# Altium schematic symbol library QUAN.SchLib: 229 symbols (part 1 of 2)
Pins are listed as number, name and electrical type; pins without a type are passive.

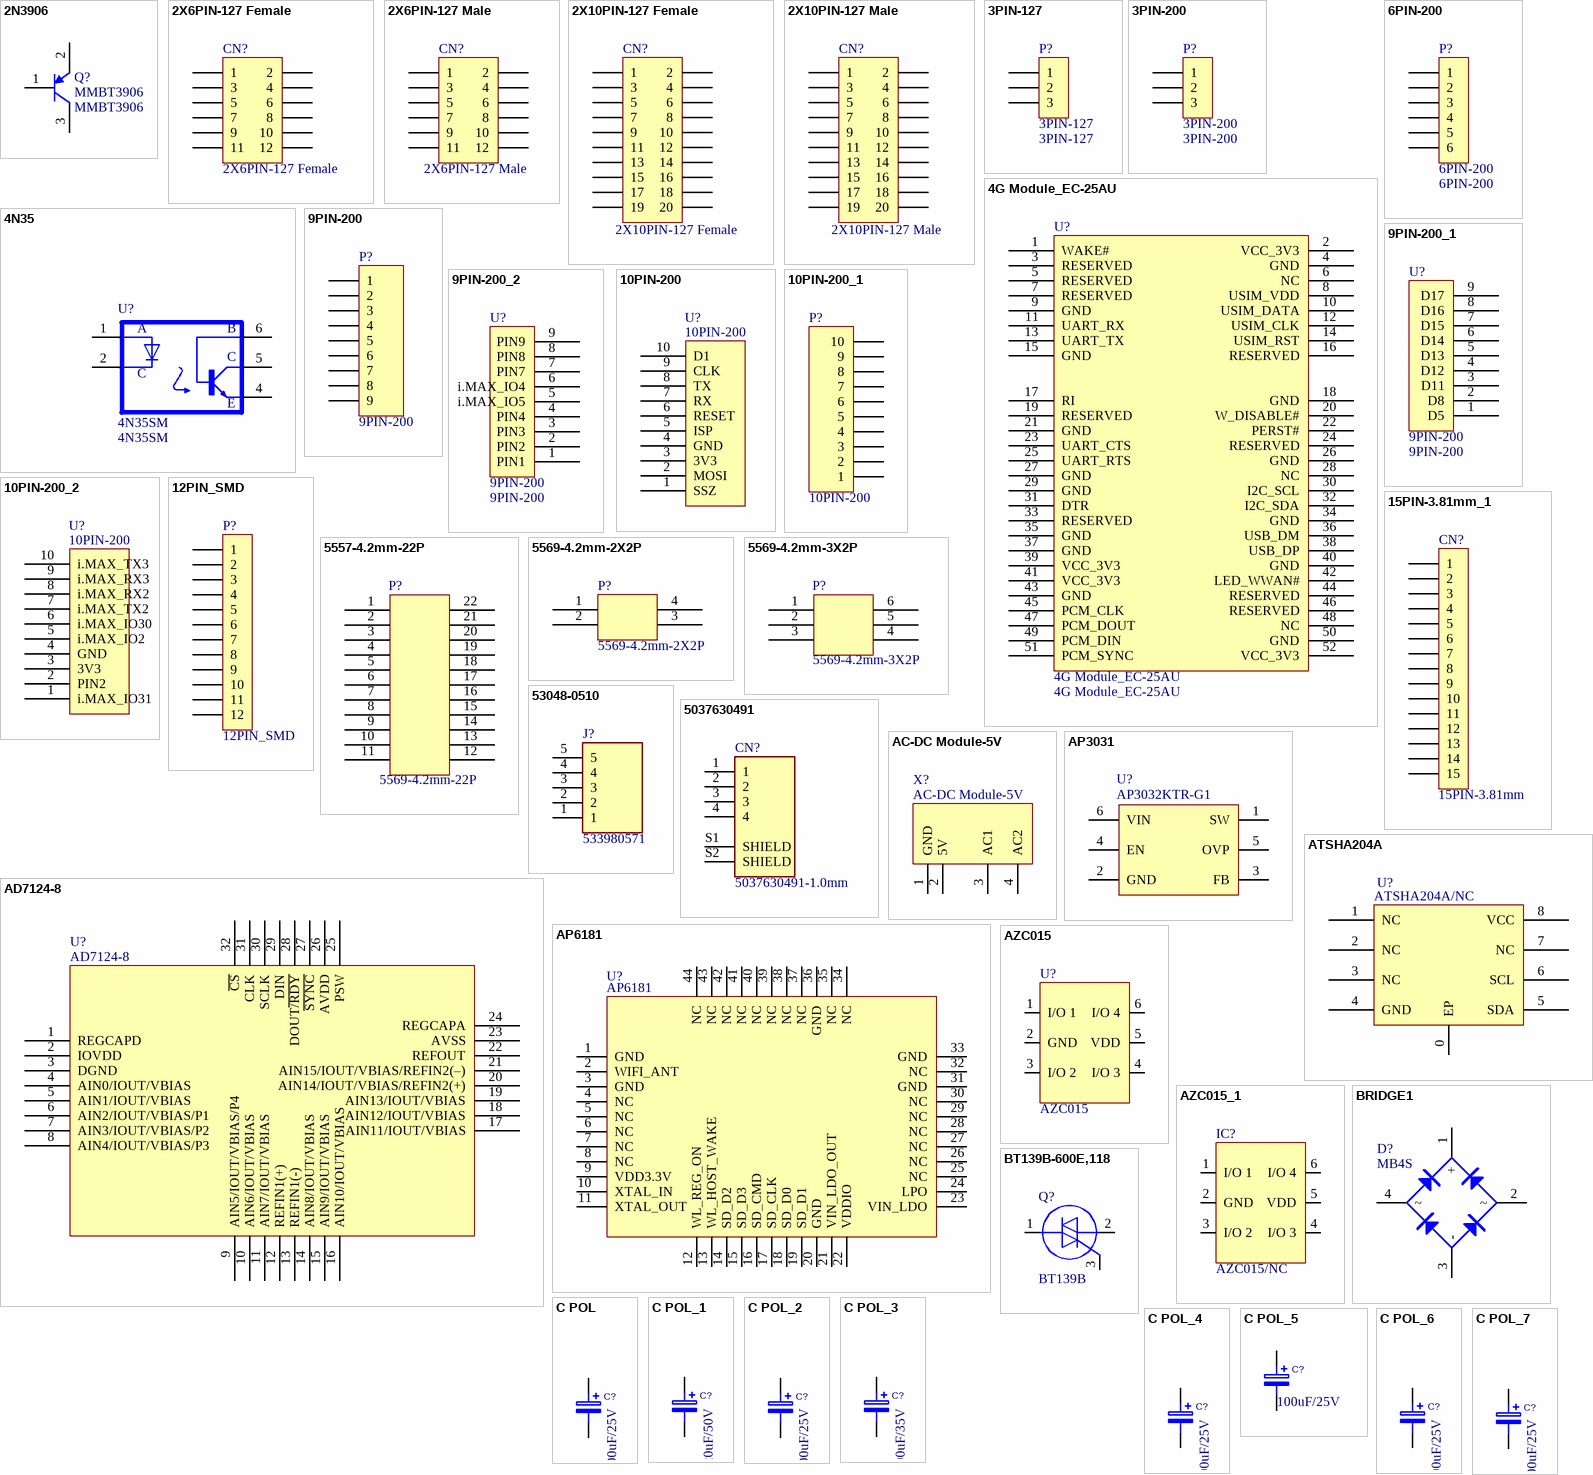
[diagram p0: symbols 2N3906 to C POL_7]

## 2N3906
designator Q?, comment MMBT3906
PNP General Purpose Amplifier; Published: 8-Jun-2000; LatestRevisionDate: 15-Jan-2003; LatestRevisionNote: PCB Footprint 'BCY-W3/D4.7' replaced; DatasheetDocument: 1997; PackageDocument: Sep-1998; PackageReference: TO-92A; Publisher: Altium Limited; Code_JEDEC: TO-92A; ComponentLink1Description: Manufacturer Link; ComponentLink1URL: http://www.fairchildsemi.com/; ComponentLink2Description: Datasheet; ComponentLink2URL: http://www.fairchildsemi.com/ds/2N%2F2N3906.pdf; Value: MMBT3906
footprint TO-92A
footprint SOT-23 -2N3906
pins: 1 B, 2 E, 3 C
2 alternate drawings of the same symbol

## 2X6PIN-127 Female
designator CN?
Value: 2X6PIN-127 Female
footprint 2X6PIN-127 -SMT Female
pins: 1, 2, 3, 4, 5, 6, 7, 8, 9, 10, 11, 12
2 alternate drawings of the same symbol

## 2X6PIN-127 Male
designator CN?
2X10PIN-127 Male; Value: 2X6PIN-127 Male
footprint 2X6PIN-127 -SMT male
pins: 1, 2, 3, 4, 5, 6, 7, 8, 9, 10, 11, 12
2 alternate drawings of the same symbol

## 2X10PIN-127 Female
designator CN?
Value: 2X10PIN-127 Female
footprint 2X10PIN-127 -SMT Female
pins: 1, 2, 3, 4, 5, 6, 7, 8, 9, 10, 11, 12, 13, 14, 15, 16, 17, 18, 19, 20
2 alternate drawings of the same symbol

## 2X10PIN-127 Male
designator CN?
Value: 2X10PIN-127 Male
footprint 2X10PIN-127 -SMT male
pins: 1, 2, 3, 4, 5, 6, 7, 8, 9, 10, 11, 12, 13, 14, 15, 16, 17, 18, 19, 20
2 alternate drawings of the same symbol

## 3PIN-127
designator P?
1.27mm Header; Value: 3PIN-127
footprint 3PIN-127
pins: 1, 2, 3

## 3PIN-200
designator P?
Pin Header; LatestRevisionDate: 17-Jul-2002; LatestRevisionNote: Re-released for DXP Platform.; Publisher: Altium Limited; Value: 3PIN-200
footprint 3PIN-200
pins: 1, 2, 3

## 4G Module_EC-25AU
designator U?
4G Module; Value: 4G Module_EC-25AU
footprint IC128
footprint QFP100
footprint pcie (PCIE)
pins: 1 WAKE#, 2 VCC_3V3, 3 RESERVED, 4 GND, 5 RESERVED, 6 NC, 7 RESERVED, 8 USIM_VDD, 9 GND, 10 USIM_DATA, 11 UART_RX, 12 USIM_CLK, 13 UART_TX, 14 USIM_RST, 15 GND, 16 RESERVED, 17 RI, 18 GND, 19 RESERVED, 20 W_DISABLE#, 21 GND, 22 PERST#, 23 UART_CTS, 24 RESERVED, 25 UART_RTS, 26 GND, 27 GND, 28 NC, 29 GND, 30 I2C_SCL, 31 DTR, 32 I2C_SDA, 33 RESERVED, 34 GND, 35 GND, 36 USB_DM, 37 GND, 38 USB_DP, 39 VCC_3V3, 40 GND, 41 VCC_3V3, 42 LED_WWAN#, 43 GND, 44 RESERVED, 45 PCM_CLK, 46 RESERVED, 47 PCM_DOUT, 48 NC, 49 PCM_DIN, 50 GND, 51 PCM_SYNC, 52 VCC_3V3
2 alternate drawings of the same symbol

## 4N35
designator U?, comment 4N35SM
Transistor Output Optocouplers PHOTO TRANS; MF: ON Semiconductor / Fairchild; SnapEDA_Link: https://www.snapeda.com/parts/4N35SM/Fairchild%20Semiconductor/view-part/4834122/?ref=snap; Mouser-Purchase-URL: https://snapeda.com/shop?store=Mouser&id=4834122; Availability: Good; DigiKey-Purchase-URL: https://snapeda.com/shop?store=DigiKey&id=4834122; MP: 4N35SM; Package: None; Price: None; Arrow_Electronics-Purchase-URL: https://snapeda.com/shop?store=Arrow+Electronics&id=4834122; Value: 4N35SM
footprint OPTO_4N35
pins: 1 A, 2 C, 4 E, 5 CO, 6 B

## 6PIN-200
designator P?
Pin Header; LatestRevisionDate: 17-Jul-2002; LatestRevisionNote: Re-released for DXP Platform.; Publisher: Altium Limited; Value: 6PIN-200
footprint 6PIN-200
pins: 1, 2, 3, 4, 5, 6

## 9PIN-200
designator P?
Pin Header; LatestRevisionDate: 17-Jul-2002; LatestRevisionNote: Re-released for DXP Platform.; Publisher: Altium Limited; Value: 9PIN-200
footprint 9PIN-200-PAD,1-Down
pins: 1, 2, 3, 4, 5, 6, 7, 8, 9

## 9PIN-200_1
designator U?, comment 9PIN-200
Pin Header; Value: 9PIN-200
footprint 9PIN-200
pins: 1 D5, 2 D8, 3 D11, 4 D12, 5 D13, 6 D14, 7 D15, 8 D16, 9 D17
2 alternate drawings of the same symbol

## 9PIN-200_2
designator U?, comment 9PIN-200
Pin Header; Value: 9PIN-200
footprint 9PIN-200
pins: 1 PIN1, 2 PIN2, 3 PIN3, 4 PIN4, 5 i.MAX_IO5, 6 i.MAX_IO4, 7 PIN7, 8 PIN8, 9 PIN9
2 alternate drawings of the same symbol

## 10PIN-200
designator U?
Pin Header; Value: 10PIN-200
footprint 10PIN-200
pins: 1 SSZ, 2 MOSI, 3 3V3, 4 GND, 5 ISP, 6 RESET, 7 RX, 8 TX, 9 CLK, 10 D1
2 alternate drawings of the same symbol

## 10PIN-200_1
designator P?, comment 10PIN-200
Pin Header; LatestRevisionDate: 17-Jul-2002; LatestRevisionNote: Re-released for DXP Platform.; Publisher: Altium Limited; Value: 10PIN-200
footprint 10PIN-200-PAD,1-Down
pins: 1, 2, 3, 4, 5, 6, 7, 8, 9, 10

## 10PIN-200_2
designator U?, comment 10PIN-200
Pin Header; Value: 10PIN-200
footprint 10PIN-200
pins: 1 i.MAX_IO31, 2 PIN2, 3 3V3, 4 GND, 5 i.MAX_IO2, 6 i.MAX_IO30, 7 i.MAX_TX2, 8 i.MAX_RX2, 9 i.MAX_RX3, 10 i.MAX_TX3
2 alternate drawings of the same symbol

## 12PIN_SMD
designator P?
Value: 12PIN_SMD
footprint 12PIN_SAMTEC-MMT-136-02-X-SH
pins: 1, 2, 3, 4, 5, 6, 7, 8, 9, 10, 11, 12

## 15PIN-3.81mm_1
designator CN?, comment 15PIN-3.81mm
Connector; Value: 15PIN-3.81mm
footprint CON15-3.81mm
pins: 1, 2, 3, 4, 5, 6, 7, 8, 9, 10, 11, 12, 13, 14, 15
2 alternate drawings of the same symbol

## 5557-4.2mm-22P
designator P?, comment 5569-4.2mm-22P
Connector; Value: 5569-4.2mm-22P
footprint WHITEWAFER2-4.2mm_5557-22P
pins: 1, 2, 3, 4, 5, 6, 7, 8, 9, 10, 11, 12, 13, 14, 15, 16, 17, 18, 19, 20, 21, 22

## 5569-4.2mm-2X2P
designator P?
Connecter; Value: 5569-4.2mm-2X2P
footprint 5569-4.2mm-2X2P
footprint 5569-4.2mm-2X2P-Side
pins: 1, 2, 3, 4

## 5569-4.2mm-3X2P
designator P?
Connecter; Value: 5569-4.2mm-3X2P
footprint 5569-4.2mm-3X2P-Side
pins: 1, 2, 3, 4, 5, 6

## 53048-0510
designator J?, comment 533980571
Connector; Manufacturer_Name: Molex; Manufacturer_Part_Number: 53048-0510; Datasheet Link: https://componentsearchengine.com/Datasheets/2/53048-0510.pdf; Height: 3.7mm; Value: 533980571
footprint 53398-0571
pins: 1, 2, 3, 4, 5

## 5037630491
designator CN?, comment 5037630491-1.0mm
Connector Header Surface Mount, Right Angle 4 position 0.039 _1.00mm_; MF: Molex; Price: None; Availability: Unavailable; MP: 5037630491; Package: None; SnapEDA_Link: https://www.snapeda.com/parts/5037630491/Molex/view-part/3215405/?ref=snap; Value: 5037630491-1.0mm
footprint MOLEX_5037630491
pins: 1, 2, 3, 4, S1 SHIELD, S2 SHIELD

## AC-DC Module-5V
designator X?
AC-DC Module; Value: AC-DC Module-5V
footprint AC-DC Module
pins: 1 GND, 2 5V, 3 AC1, 4 AC2
2 alternate drawings of the same symbol

## AD7124-8
designator U?
footprint IC128
footprint QFP100
footprint QFN-32-0.5MM-5X5_AD7124-8 (FN-32-0.5MM-5X5_AD7124-8)
pins: 1 REGCAPD, 2 IOVDD, 3 DGND, 4 AIN0/IOUT/VBIAS, 5 AIN1/IOUT/VBIAS, 6 AIN2/IOUT/VBIAS/P1, 7 AIN3/IOUT/VBIAS/P2, 8 AIN4/IOUT/VBIAS/P3, 9 AIN5/IOUT/VBIAS/P4, 10 AIN6/IOUT/VBIAS, 11 AIN7/IOUT/VBIAS, 12 REFIN1(+), 13 REFIN1(-), 14 AIN8/IOUT/VBIAS, 15 AIN9/IOUT/VBIAS, 16 AIN10/IOUT/VBIAS, 17 AIN11/IOUT/VBIAS, 18 AIN12/IOUT/VBIAS, 19 AIN13/IOUT/VBIAS, 20 AIN14/IOUT/VBIAS/REFIN2(+), 21 AIN15/IOUT/VBIAS/REFIN2(–), 22 REFOUT, 23 AVSS, 24 REGCAPA, 25 PSW, 26 AVDD, 27 ~{SYNC}, 28 DOUT~{/RDY}, 29 DIN, 30 SCLK, 31 CLK, 32 ~{CS}
2 alternate drawings of the same symbol

## AP3031
designator U?, comment AP3032KTR-G1
Value: AP3032KTR-G1
footprint SOT-23-6-0.95MM-1
pins: 1 SW, 2 GND, 3 FB, 4 EN, 5 OVP, 6 VIN

## AP6181
designator U?
footprint WIFI-AP6181
pins: 1 GND, 2 WIFI_ANT, 3 GND, 4 NC, 5 NC, 6 NC, 7 NC, 8 NC, 9 VDD3.3V, 10 XTAL_IN, 11 XTAL_OUT, 12 WL_REG_ON, 13 WL_HOST_WAKE, 14 SD_D2, 15 SD_D3, 16 SD_CMD, 17 SD_CLK, 18 SD_D0, 19 SD_D1, 20 GND, 21 VIN_LDO_OUT, 22 VDDIO, 23 VIN_LDO, 24 LPO, 25 NC, 26 NC, 27 NC, 28 NC, 29 NC, 30 NC, 31 GND, 32 NC, 33 GND, 34 NC, 35 NC, 36 GND, 37 NC, 38 NC, 39 NC, 40 NC, 41 NC, 42 NC, 43 NC, 44 NC

## ATSHA204A
designator U?, comment ATSHA204A/NC
footprint UDFN8
pins: 0 EP, 1 NC, 2 NC, 3 NC, 4 GND, 5 SDA, 6 SCL, 7 NC, 8 VCC
2 alternate drawings of the same symbol

## AZC015
designator U?
footprint SOT 363
footprint SOT-363
pins: 1 I/O 1, 2 GND, 3 I/O 2, 4 I/O 3, 5 VDD, 6 I/O 4

## AZC015_1
designator IC?, comment AZC015/NC
footprint SOT 363
footprint SOT-363
pins: 1 I/O 1, 2 GND, 3 I/O 2, 4 I/O 3, 5 VDD, 6 I/O 4

## BRIDGE1
designator D?, comment MB4S
Diode Bridge
footprint BRIDGE
footprint HD01-T
pins: 1 +, 2 ~, 3 -, 4 ~
2 alternate drawings of the same symbol

## BT139B-600E,118
designator Q?, comment BT139B
Triac; Manufacturer_Name: WeEn Semiconductors; Manufacturer_Part_Number: BT139B-600E,118; Datasheet Link: http://www.ween-semi.com/sites/default/files/2018-10/bt139b-600e.pdf; Arrow Part Number: BT139B-600E,118; Arrow Price/Stock: https://www.arrow.com/en/products/bt139b-600e118/ween-semiconductors; Mouser Part Number: 771-BT139B-600E118; Mouser Price/Stock: https://www.mouser.co.uk/ProductDetail/WeEn-Semiconductors/BT139B-600E118?qs=me8TqzrmIYUBrurgBMAh0Q%3D%3D
footprint BTA225B800B118
pins: 1 MT1, 2 MT2, 3 G

## C POL
designator C?, comment 100uF/25V
Part Number: 53300833000; Right: 20; Tolerance: 20%; Rating: 10V; Package Height: 1.8mm; PCB_x: 19.129500; PCB_y: 12.184000; PCB_dir: 0.000000; PCB_loc: Top; Bottom: 20; Value: 100uF/25V
footprint 0603
footprint 0805
footprint 3258
footprint TANCAP-B-TYPE
footprint DIP CAP-8*3.5
pins: 1, 2
2 alternate drawings of the same symbol

## C POL_1
designator C?, comment 220uF/50V
Part Number: 53300833000; Right: 20; Tolerance: 20%; Rating: 10V; Package Height: 1.8mm; PCB_x: 19.129500; PCB_y: 12.184000; PCB_dir: 0.000000; PCB_loc: Top; Bottom: 20; VALUE_ALLEGRO: 220uF/50V
footprint 0603
footprint 0805
footprint 3258
footprint TANCAP-B-TYPE
footprint DIP CAP-12.5*5
pins: 1, 2
2 alternate drawings of the same symbol

## C POL_2
designator C?, comment 100uF/25V
Part Number: 53300833000; Right: 20; Tolerance: 20%; Rating: 10V; Package Height: 1.8mm; PCB_x: 19.129500; PCB_y: 12.184000; PCB_dir: 0.000000; PCB_loc: Top; Bottom: 20; Value: 100uF/25V
footprint 0603
footprint 0805
footprint 3258
footprint TANCAP-B-TYPE
footprint DIP CAP-8*3.5
pins: 1, 2
2 alternate drawings of the same symbol

## C POL_3
designator C?, comment 100uF/35V
Part Number: 53300833000; Right: 20; Tolerance: 20%; Rating: 10V; Package Height: 1.8mm; PCB_x: 19.129500; PCB_y: 12.184000; PCB_dir: 0.000000; PCB_loc: Top; Bottom: 20; VALUE_ALLEGRO: 100uF/35V
footprint 0603
footprint 0805
footprint 3258
footprint TANCAP-B-TYPE
footprint DIP CAP-8*3.5
pins: 1, 2
2 alternate drawings of the same symbol

## C POL_4
designator C?, comment 100uF/25V
Part Number: 53300833000; Right: 20; Tolerance: 20%; Rating: 10V; Package Height: 1.8mm; PCB_x: 19.129500; PCB_y: 12.184000; PCB_dir: 0.000000; PCB_loc: Top; Bottom: 20; VALUE_ALLEGRO: 100uF/25V
footprint 0603
footprint 0805
footprint 3258
footprint TANCAP-B-TYPE
footprint DIP CAP-6.5*2.54
pins: 1, 2
2 alternate drawings of the same symbol

## C POL_5
designator C?, comment 100uF/25V
Part Number: 53300833000; Right: 20; Tolerance: 20%; Rating: 10V; Package Height: 1.8mm; PCB_x: 19.129500; PCB_y: 12.184000; PCB_dir: 0.000000; PCB_loc: Top; Bottom: 20; VALUE_ALLEGRO: 100uF/25V
footprint 0603
footprint 0805
footprint 3258
footprint TANCAP-B-TYPE
footprint DIP CAP-6.5*2.54
pins: 1, 2
2 alternate drawings of the same symbol

## C POL_6
designator C?, comment 100uF/25V
Part Number: 53300833000; Right: 20; Tolerance: 20%; Rating: 10V; Package Height: 1.8mm; PCB_x: 19.129500; PCB_y: 12.184000; PCB_dir: 0.000000; PCB_loc: Top; Bottom: 20; VALUE_ALLEGRO: 100uF/25V
footprint 0603
footprint 0805
footprint 3258
footprint TANCAP-B-TYPE
footprint DIP CAP-6.5*2.54
pins: 1, 2
2 alternate drawings of the same symbol

## C POL_7
designator C?, comment 100uF/25V
Value: 100uF/25V
footprint 0603
footprint 0805
footprint 3258
footprint TANCAP-B-TYPE
footprint DIP CAP-8*3.5
pins: 1, 2
2 alternate drawings of the same symbol

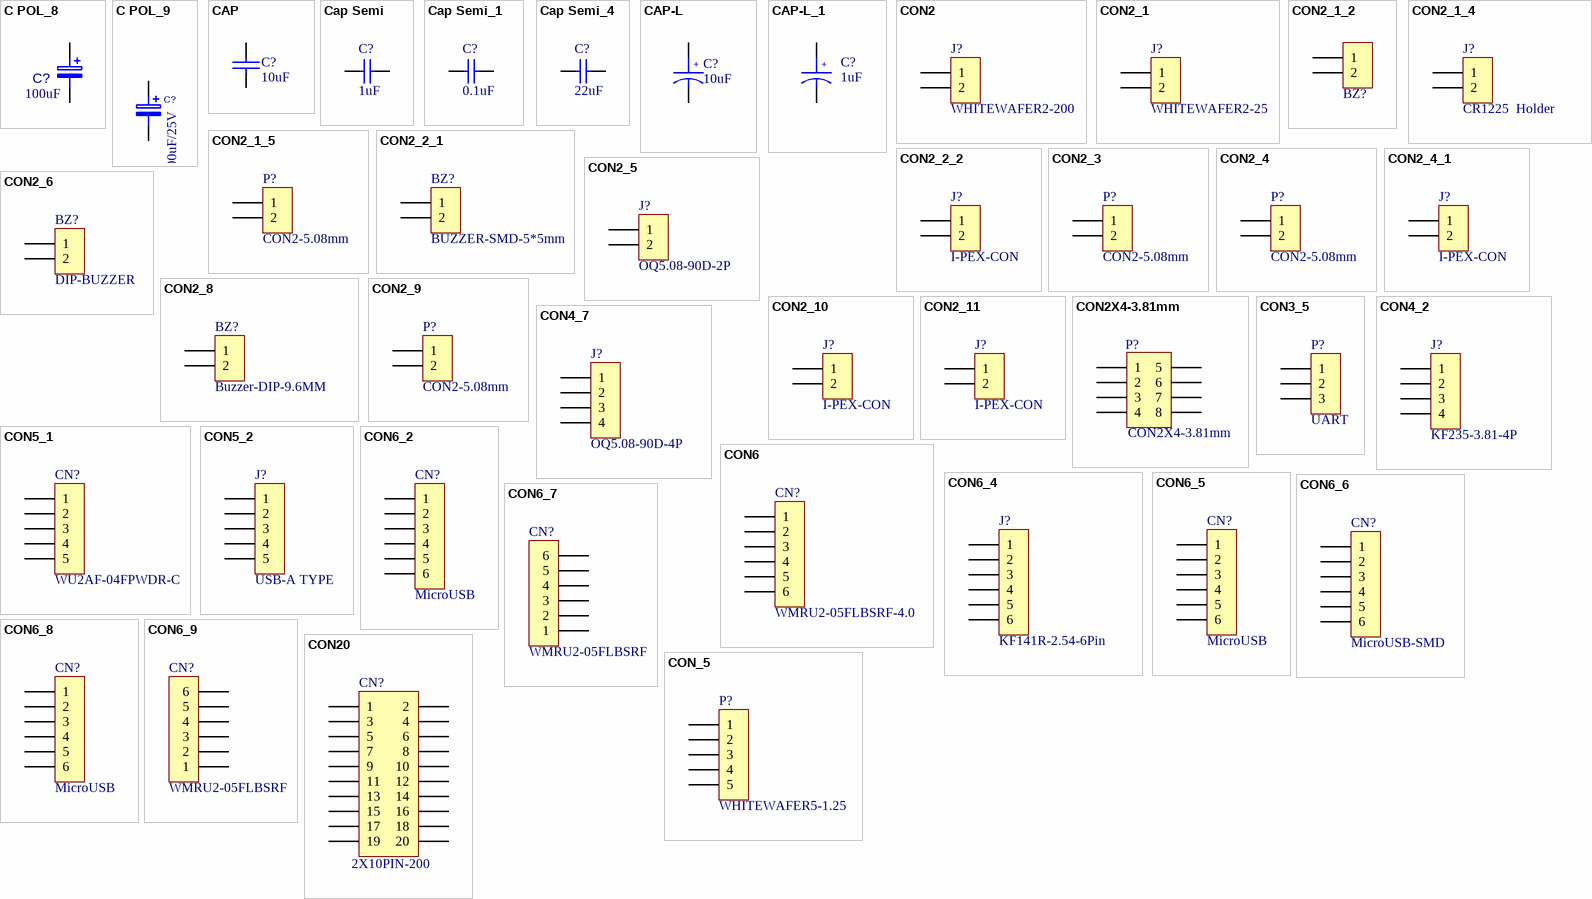
[diagram p1: symbols C POL_8 to CON_5]

## C POL_8
designator C?, comment value 100uF  (hidden comment: 100uF/25V)
footprint 0603
footprint 0805
footprint 3258
footprint TANCAP-B-TYPE
footprint DIP CAP-6.5*2.54
pins: 1, 2
2 alternate drawings of the same symbol

## C POL_9
designator C?, comment 100uF/25V
Part Number: 53300833000; Right: 20; Tolerance: 20%; Rating: 10V; Package Height: 1.8mm; PCB_x: 19.129500; PCB_y: 12.184000; PCB_dir: 0.000000; PCB_loc: Top; Bottom: 20; Value: 100uF/25V
footprint 0603
footprint 0805
footprint 3258
footprint TANCAP-B-TYPE
footprint DIP CAP-8*3.5
pins: 1, 2
2 alternate drawings of the same symbol

## CAP
designator C?, comment 10uF
Capacitor
footprint 0603C
footprint 0805
footprint 1206
footprint 0402C
footprint 0201C
pins: 1, 2
2 alternate drawings of the same symbol

## Cap Semi
designator C?, comment 1uF
Capacitor (Semiconductor SIM Model); Published: 8-Jun-2000; LatestRevisionDate: 17-Jul-2002; LatestRevisionNote: Re-released for DXP Platform.; PackageReference: C1206; Publisher: Altium Limited; Value: 1uF
footprint C1206
footprint 0402
footprint 1310[0504]
footprint 1608[0603]
footprint 0603C
footprint 0402C
pins: 1, 2
2 alternate drawings of the same symbol

## Cap Semi_1
designator C?, comment 0.1uF
Capacitor (Semiconductor SIM Model); Published: 8-Jun-2000; LatestRevisionDate: 17-Jul-2002; LatestRevisionNote: Re-released for DXP Platform.; PackageReference: C1206; Publisher: Altium Limited; Value: 0.1uF
footprint C1206
footprint 0402
footprint 1310[0504]
footprint 1608[0603]
footprint 0603C
footprint 0402C
pins: 1, 2
2 alternate drawings of the same symbol

## Cap Semi_4
designator C?, comment 22uF
Capacitor; Value: 22uF
footprint C1206
footprint 0402
footprint 1310[0504]
footprint 1608[0603]
footprint 0603C
footprint 0805C
pins: 1, 2
2 alternate drawings of the same symbol

## CAP-L
designator C?, comment 10uF
Tantalum  Capacitor; Value: 10uF
footprint 0603C
footprint DIPC2
footprint DIPC3
footprint DIPC4
footprint 2 x 1.25 C-TANTALUM
pins: 1 2, 2 1
text: +

## CAP-L_1
designator C?, comment 1uF
Tantalum  Capacitor; Value: 1uF
footprint 0603C
footprint DIPC2
footprint DIPC3
footprint DIPC4
footprint 2 x 1.25 C-TANTALUM
pins: 1 2, 2 1
text: +

## CON2
designator J?, comment WHITEWAFER2-200
Connector
footprint BUZZER-DIP-12MM-6.5MM
footprint WHITEWAFER2-200
pins: 1, 2
2 alternate drawings of the same symbol

## CON2_1
designator J?, comment WHITEWAFER2-25
Connector
footprint BUZZER-DIP-12MM-6.5MM
footprint WHITEWAFER2-25
pins: 1, 2
2 alternate drawings of the same symbol

## CON2_1_2
designator BZ?, comment BUZZER-DIP-9.6MM-Pitch5  (value not drawn)
Connector
footprint BUZZER-DIP-9.6MM
pins: 1, 2
2 alternate drawings of the same symbol

## CON2_1_4
designator J?, comment CR1225  Holder
Connector
footprint BAT-SMD-CR1225
pins: 1, 2
2 alternate drawings of the same symbol

## CON2_1_5
designator P?, comment CON2-5.08mm
Connector
footprint BUZZER-DIP-12MM-6.5MM
footprint OQ5.08-90D-2P
pins: 1, 2
2 alternate drawings of the same symbol

## CON2_2_1
designator BZ?, comment BUZZER-SMD-5*5mm
Connector
footprint BUZZER-DIP-12MM-6.5MM
footprint BUZZER-SMD-5*5mm
pins: 1, 2
2 alternate drawings of the same symbol

## CON2_2_2
designator J?, comment I-PEX-CON
Connector
footprint I-PEX-CON
pins: 1, 2
2 alternate drawings of the same symbol

## CON2_3
designator P?, comment CON2-5.08mm
Connector
footprint BUZZER-DIP-12MM-6.5MM
footprint KF142R-5.08-2P
pins: 1, 2
2 alternate drawings of the same symbol

## CON2_4
designator P?, comment CON2-5.08mm
Connector
footprint BUZZER-DIP-12MM-6.5MM
footprint OQ5.08-90D-2P
pins: 1, 2
2 alternate drawings of the same symbol

## CON2_4_1
designator J?, comment I-PEX-CON
Connector
footprint I-PEX-CON
pins: 1, 2
2 alternate drawings of the same symbol

## CON2_5
designator J?, comment OQ5.08-90D-2P
Connector
footprint OQ5.08-90D-2P
pins: 1, 2
2 alternate drawings of the same symbol

## CON2_6
designator BZ?, comment DIP-BUZZER
Connector
footprint BUZZER-DIP-12MM-6.5MM
footprint BUZZER-DIP-12MM-7.62MM
pins: 1, 2
2 alternate drawings of the same symbol

## CON2_8
designator BZ?, comment Buzzer-DIP-9.6MM
Connector
footprint BUZZER-DIP-9.6MM
pins: 1, 2

## CON2_9
designator P?, comment CON2-5.08mm
Connector
footprint BUZZER-DIP-12MM-6.5MM
footprint OQ5.08-90D-2P
pins: 1, 2
2 alternate drawings of the same symbol

## CON2_10
designator J?, comment I-PEX-CON
Connector
footprint I-PEX-CON
pins: 1, 2
2 alternate drawings of the same symbol

## CON2_11
designator J?, comment I-PEX-CON
Connector
footprint I-PEX-CON
pins: 1, 2
2 alternate drawings of the same symbol

## CON2X4-3.81mm
designator P?
Connector
footprint 2X3PIN-200
footprint CON2X4-3.81mm
pins: 1, 2, 3, 4, 5, 6, 7, 8

## CON3_5
designator P?, comment UART
Connector
footprint WHITEWAFER3-200-SMD-90
pins: 1, 2, 3
2 alternate drawings of the same symbol

## CON4_2
designator J?, comment KF235-3.81-4P
Connector
footprint CON4-7.5mm
footprint c
footprint KF235-3.81-4P
pins: 1, 2, 3, 4
2 alternate drawings of the same symbol

## CON4_7
designator J?, comment OQ5.08-90D-4P
Connector
footprint CON4-7.5mm
footprint c
footprint CON4-3.81mm
pins: 1, 2, 3, 4
2 alternate drawings of the same symbol

## CON5_1
designator CN?, comment WU2AF-04FPWDR-C
Connector
footprint USB-A TYPE-CON2
pins: 1, 2, 3, 4, 5
2 alternate drawings of the same symbol

## CON5_2
designator J?, comment USB-A TYPE
Connector
footprint USB2.0-A TYPE
pins: 1, 2, 3, 4, 5
2 alternate drawings of the same symbol

## CON6
designator CN?, comment WMRU2-05FLBSRF-4.0
Connector; Value: MicroUSB
footprint USB--MICRO-WMRU2-05FLBSRF
pins: 1, 2, 3, 4, 5, 6
2 alternate drawings of the same symbol

## CON6_2
designator CN?, comment MicroUSB
Connector; Value: MicroUSB
footprint USB--MICRO-WMRU2-05FLBSRF
pins: 1, 2, 3, 4, 5, 6
2 alternate drawings of the same symbol

## CON6_4
designator J?, comment KF141R-2.54-6Pin
Connector
footprint KF141R-2.54-6Pin
pins: 1, 2, 3, 4, 5, 6
2 alternate drawings of the same symbol

## CON6_5
designator CN?, comment MicroUSB
Connector; Value: MicroUSB
footprint USB-MICRO-DIP-180
pins: 1, 2, 3, 4, 5, 6
2 alternate drawings of the same symbol

## CON6_6
designator CN?, comment MicroUSB-SMD
Connector; Value: MicroUSB
footprint USB--MICRO-WMRU2-05FLBSRF
pins: 1, 2, 3, 4, 5, 6
2 alternate drawings of the same symbol

## CON6_7
designator CN?, comment value WMRU2-05FLBSRF  (hidden comment: MicroUSB)
footprint USB--MICRO-DIP-MK7.2
pins: 1, 2, 3, 4, 5, 6
2 alternate drawings of the same symbol

## CON6_8
designator CN?, comment MicroUSB
Connector; Value: MicroUSB
footprint USB--MICRO-WMRU2-05FLBSRF
pins: 1, 2, 3, 4, 5, 6
2 alternate drawings of the same symbol

## CON6_9
designator CN?, comment value WMRU2-05FLBSRF  (hidden comment: MicroUSB)
footprint USB--MICRO-WMRU2-05FLBSRF
pins: 1, 2, 3, 4, 5, 6
2 alternate drawings of the same symbol

## CON20
designator CN?, comment 2X10PIN-200
Header-20Pin; Value: 2X10PIN-200
footprint 2X10PIN-200_DC3-20P
pins: 1, 2, 3, 4, 5, 6, 7, 8, 9, 10, 11, 12, 13, 14, 15, 16, 17, 18, 19, 20
2 alternate drawings of the same symbol

## CON_5
designator P?, comment WHITEWAFER5-1.25
Value: WHITEWAFER5-1.25
footprint WHITEWAFER5-125L
pins: 1, 2, 3, 4, 5

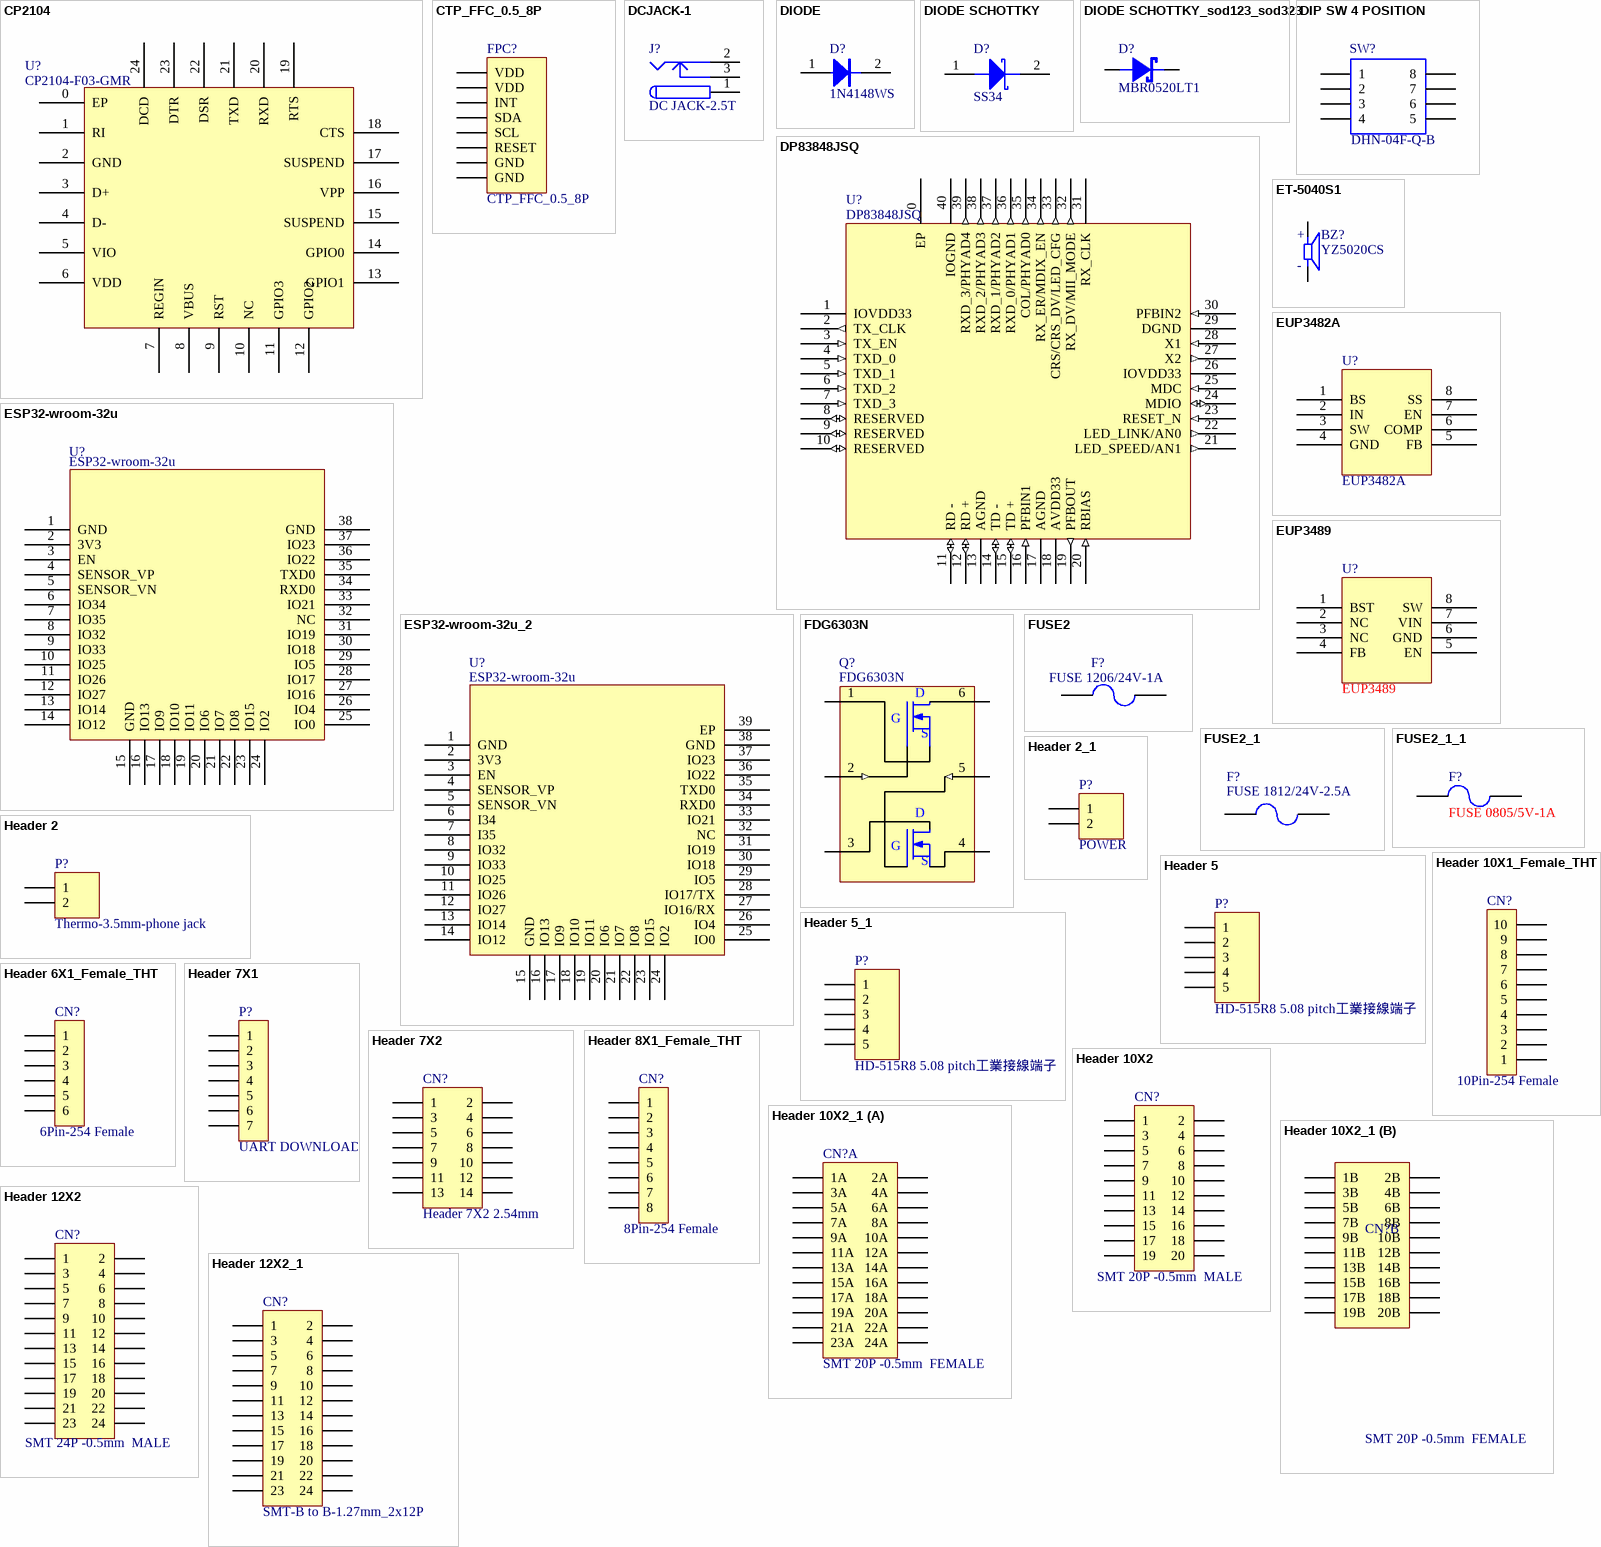
[diagram p2: symbols CP2104 to Header 12X2_1]

## CP2104
designator U?, comment CP2104-F03-GMR
footprint QFN-24-0.5MM-4X4
pins: 0 EP, 1 RI, 2 GND, 3 D+, 4 D-, 5 VIO, 6 VDD, 7 REGIN, 8 VBUS, 9 RST, 10 NC, 11 GPIO3, 12 GPIO2, 13 GPIO1, 14 GPIO0, 15 SUSPEND, 16 VPP, 17 SUSPEND, 18 CTS, 19 RTS, 20 RXD, 21 TXD, 22 DSR, 23 DTR, 24 DCD
2 alternate drawings of the same symbol

## CTP_FFC_0.5_8P
designator FPC?
FPC Connector
footprint FPC 0.5MM-8P-Down
pins: 1 VDD, 2 VDD, 3 INT, 4 SDA, 5 SCL, 6 RESET, 7 GND, 8 GND
2 alternate drawings of the same symbol

## DCJACK-1
designator J?, comment DC JACK-2.5T
Low Voltage Power Supply Connector; Published: *; DatasheetDocument: *; Publisher: *; ComponentLink1Description: *; ComponentLink1URL: *
footprint DC JACK-DS-213
footprint DS-213
footprint DC JACK-2.5T-NEW
pins: 1 (power), 2 (power), 3 (power)
2 alternate drawings of the same symbol

## DIODE
designator D?, comment 1N4148WS
footprint SMD4148
footprint SMD5819
footprint DIODE-DIP1
footprint D2
footprint SOD323-1N4148WS
pins: 1, 2
2 alternate drawings of the same symbol

## DIODE SCHOTTKY
designator D?, comment SS34
Schottky Diode
footprint SMBJ40CA(TVS)
pins: 1, 2

## DIODE SCHOTTKY_sod123_sod323
designator D?, comment MBR0520LT1
Part Number: 40010052001; Right: 30; Bottom: 20; Rating: 0.5A/20V; Package Height: 1.35mm; PCB_x: 19.685000; PCB_y: 17.780000; PCB_dir: 0.000000; PCB_loc: Top; VALUE_ALLEGRO: MBR0520LT1
footprint mot/sod123
footprint MBR0520LT1--New
pins: 1 cathode, 2 anode
2 alternate drawings of the same symbol

## DIP SW 4 POSITION
designator SW?, comment DHN-04F-Q-B
footprint IC14
footprint SW-4P2T-1.27mm-SMT
pins: 1, 2, 3, 4, 5, 6, 7, 8
2 alternate drawings of the same symbol

## DP83848JSQ
designator U?
footprint QFN-40-0.5MM-6X6
pins: 0 EP, 1 IOVDD33, 2 TX_CLK (out), 3 TX_EN (in), 4 TXD_0 (in), 5 TXD_1 (in), 6 TXD_2 (in), 7 TXD_3 (in), 8 RESERVED (io), 9 RESERVED (io), 10 RESERVED (io), 11 RD - (io), 12 RD + (io), 13 AGND, 14 TD - (io), 15 TD + (io), 16 PFBIN1 (in), 17 AGND, 18 AVDD33, 19 PFBOUT (out), 20 RBIAS (in), 21 LED_SPEED/AN1 (out), 22 LED_LINK/AN0 (out), 23 RESET_N (in), 24 MDIO (io), 25 MDC (in), 26 IOVDD33, 27 X2 (out), 28 X1 (in), 29 DGND, 30 PFBIN2 (in), 31 RX_CLK, 32 RX_DV/MII_MODE (out), 33 CRS/CRS_DV/LED_CFG (out), 34 RX_ER/MDIX_EN (out), 35 COL/PHYAD0 (out), 36 RXD_0/PHYAD1 (out), 37 RXD_1/PHYAD2 (out), 38 RXD_2/PHYAD3 (out), 39 RXD_3/PHYAD4 (out), 40 IOGND
2 alternate drawings of the same symbol

## ESP32-wroom-32u
designator U?
footprint ESP32-WROOM-32U
pins: 1 GND, 2 3V3, 3 EN, 4 SENSOR_VP, 5 SENSOR_VN, 6 IO34, 7 IO35, 8 IO32, 9 IO33, 10 IO25, 11 IO26, 12 IO27, 13 IO14, 14 IO12, 15 GND, 16 IO13, 17 IO9, 18 IO10, 19 IO11, 20 IO6, 21 IO7, 22 IO8, 23 IO15, 24 IO2, 25 IO0, 26 IO4, 27 IO16, 28 IO17, 29 IO5, 30 IO18, 31 IO19, 32 NC, 33 IO21, 34 RXD0, 35 TXD0, 36 IO22, 37 IO23, 38 GND

## ESP32-wroom-32u_2
designator U?, comment ESP32-wroom-32u
footprint ESP32-WROOM-32D
pins: 1 GND, 2 3V3, 3 EN, 4 SENSOR_VP, 5 SENSOR_VN, 6 I34, 7 I35, 8 IO32, 9 IO33, 10 IO25, 11 IO26, 12 IO27, 13 IO14, 14 IO12, 15 GND, 16 IO13, 17 IO9, 18 IO10, 19 IO11, 20 IO6, 21 IO7, 22 IO8, 23 IO15, 24 IO2, 25 IO0, 26 IO4, 27 IO16/RX, 28 IO17/TX, 29 IO5, 30 IO18, 31 IO19, 32 NC, 33 IO21, 34 RXD0, 35 TXD0, 36 IO22, 37 IO23, 38 GND, 39 EP

## ET-5040S1
designator BZ?, comment value YZ5020CS  (hidden comment: YZ5020CS-03L-4.0-12-R)
Buzzer
footprint BUZZER-SMD-5*5mm
pins: 1, 2
text: +; -

## EUP3482A
designator U?
footprint SOP8
footprint SOP8-1
pins: 1 BS, 2 IN, 3 SW, 4 GND, 5 FB, 6 COMP, 7 EN, 8 SS
2 alternate drawings of the same symbol

## EUP3489
designator U?
DC-DC  Buck 5A,30V
footprint SOP8_EUP3489
footprint SOP8_EUP3489
pins: 1 BST, 2 NC, 3 NC, 4 FB, 5 EN, 6 GND, 7 VIN, 8 SW
2 alternate drawings of the same symbol

## FDG6303N
designator Q?
N-Channel Mosfet; Value: FDG6303N
footprint SOT-363
pins: 1 SOURCE, 2 GATE (in), 3 DRAIN, 4 DRAIN, 5 GATE (in), 6 DRAIN
2 alternate drawings of the same symbol
text: D; G; S

## FUSE2
designator F?, comment FUSE 1206/24V-1A
Fuse
footprint 1206-FUSE
pins: 1, 2

## FUSE2_1
designator F?, comment FUSE 1812/24V-2.5A
Fuse
footprint 1812
pins: 1, 2

## FUSE2_1_1
designator F?, comment FUSE 0805/5V-1A
Fuse; Value: FUSE 0805/5V-1A
footprint 0805
pins: 1, 2

## Header 2
designator P?, comment Thermo-3.5mm-phone jack
Header, 2-Pin; LatestRevisionDate: 17-Jul-2002; LatestRevisionNote: Re-released for DXP Platform.; Publisher: Altium Limited
footprint 3.5mm-phone jack-180
pins: 1, 2

## Header 2_1
designator P?, comment POWER
Header, 2-Pin; LatestRevisionDate: 17-Jul-2002; LatestRevisionNote: Re-released for DXP Platform.; Publisher: Altium Limited
footprint WHITEWAFER2-4.2mm_4202PA
pins: 1, 2

## Header 5
designator P?, comment HD-515R8 5.08 pitch工業接線端子
Header, 5-Pin; LatestRevisionDate: 17-Jul-2002; LatestRevisionNote: Re-released for DXP Platform.; Publisher: Altium Limited
footprint HDR1X5
footprint 5PIN-200
footprint ME010508-5P
footprint OQ5.08-90D-5P
pins: 1, 2, 3, 4, 5
2 alternate drawings of the same symbol

## Header 5_1
designator P?, comment HD-515R8 5.08 pitch工業接線端子
Header, 5-Pin; LatestRevisionDate: 17-Jul-2002; LatestRevisionNote: Re-released for DXP Platform.; Publisher: Altium Limited
footprint HDR1X5
footprint 5PIN-200
footprint ME010508-5P
footprint OQ5.08-90D-5P
pins: 1, 2, 3, 4, 5
2 alternate drawings of the same symbol

## Header 6X1_Female_THT
designator CN?, comment 6Pin-254 Female
Header, 6-Pins, Single row  female; Value: 6Pin-254 Female
footprint 1*6P_FEMALE (Footprint not found)
footprint 6PIN-254-PAD,1-Down
pins: 1, 2, 3, 4, 5, 6

## Header 7X1
designator P?, comment UART DOWNLOAD
Header, 6-Pins, Single row; Value: 7PIN-254
footprint 1*6P_FEMALE (Footprint not found)
footprint 7PIN-254
pins: 1, 2, 3, 4, 5, 6, 7

## Header 7X2
designator CN?, comment Header 7X2 2.54mm
Header, 7-Pin, Dual row; LatestRevisionDate: 17-Jul-2002; LatestRevisionNote: Re-released for DXP Platform.; Publisher: Altium Limited; Value: Header 7X2
footprint 2X7PIN-254_Header Straight
pins: 1, 2, 3, 4, 5, 6, 7, 8, 9, 10, 11, 12, 13, 14

## Header 8X1_Female_THT
designator CN?, comment 8PIN-254 female
Header, 8-Pins, Single row  female; Value: 8Pin-254 Female
footprint 1*8P_FEMALE (Footprint not found)
footprint 8PIN-254-PAD,1-Down
pins: 1, 2, 3, 4, 5, 6, 7, 8

## Header 10X1_Female_THT
designator CN?, comment value 10Pin-254 Female  (hidden comment: 8Pin-254 Female)
Header, 10-Pin, Single row female
footprint 1*10P_FEMALE (Footprint not found)
footprint 10PIN-254-PAD,1-Down
pins: 1, 2, 3, 4, 5, 6, 7, 8, 9, 10

## Header 10X2
designator CN?, comment SMT 20P -0.5mm  MALE
0.5 Board to Board Stacked  Height 3.0mm MALE; LatestRevisionDate: 17-Jul-2002; LatestRevisionNote: Re-released for DXP Platform.; Publisher: Altium Limited; Value: SMT 20P -0.5mm  MALE
footprint SMT-0.5mm-20P_Board to Board
pins: 1, 2, 3, 4, 5, 6, 7, 8, 9, 10, 11, 12, 13, 14, 15, 16, 17, 18, 19, 20

## Header 10X2_1
designator CN?, comment SMT 20P -0.5mm  FEMALE
0.5 Board to Board Stacked  Height 3.0mm MALE; Value: SMT 20P -0.5mm  MALE; LatestRevisionDate: 17-Jul-2002; LatestRevisionNote: Re-released for DXP Platform.; Publisher: Altium Limited
footprint DTM-01-Board-TOP
footprint DTM-01-Board-TOP PAD 24&20
part A pins: 1A, 2A, 3A, 4A, 5A, 6A, 7A, 8A, 9A, 10A, 11A, 12A, 13A, 14A, 15A, 16A, 17A, 18A, 19A, 20A, 21A, 22A, 23A, 24A
part B pins: 1B, 2B, 3B, 4B, 5B, 6B, 7B, 8B, 9B, 10B, 11B, 12B, 13B, 14B, 15B, 16B, 17B, 18B, 19B, 20B

## Header 12X2
designator CN?, comment SMT 24P -0.5mm  MALE
0.5 Board to Board Stacked  Height 3.0mm MALE; Value: SMT 20P -0.5mm  MALE; LatestRevisionDate: 17-Jul-2002; LatestRevisionNote: Re-released for DXP Platform.; Publisher: Altium Limited
footprint SMT  0.5mm - 20P Board to Board  Stacked
footprint SMT-0.5mm-24P_Board to Board
pins: 1, 2, 3, 4, 5, 6, 7, 8, 9, 10, 11, 12, 13, 14, 15, 16, 17, 18, 19, 20, 21, 22, 23, 24

## Header 12X2_1
designator CN?, comment SMT-B to B-1.27mm_2x12P
0.5 Board to Board Stacked  Height 3.0mm MALE; Value: SMT 24P -0.5mm  MALE; LatestRevisionDate: 17-Jul-2002; LatestRevisionNote: Re-released for DXP Platform.; Publisher: Altium Limited
footprint SMT-B to B-1.27mm_2x12P
pins: 1, 2, 3, 4, 5, 6, 7, 8, 9, 10, 11, 12, 13, 14, 15, 16, 17, 18, 19, 20, 21, 22, 23, 24

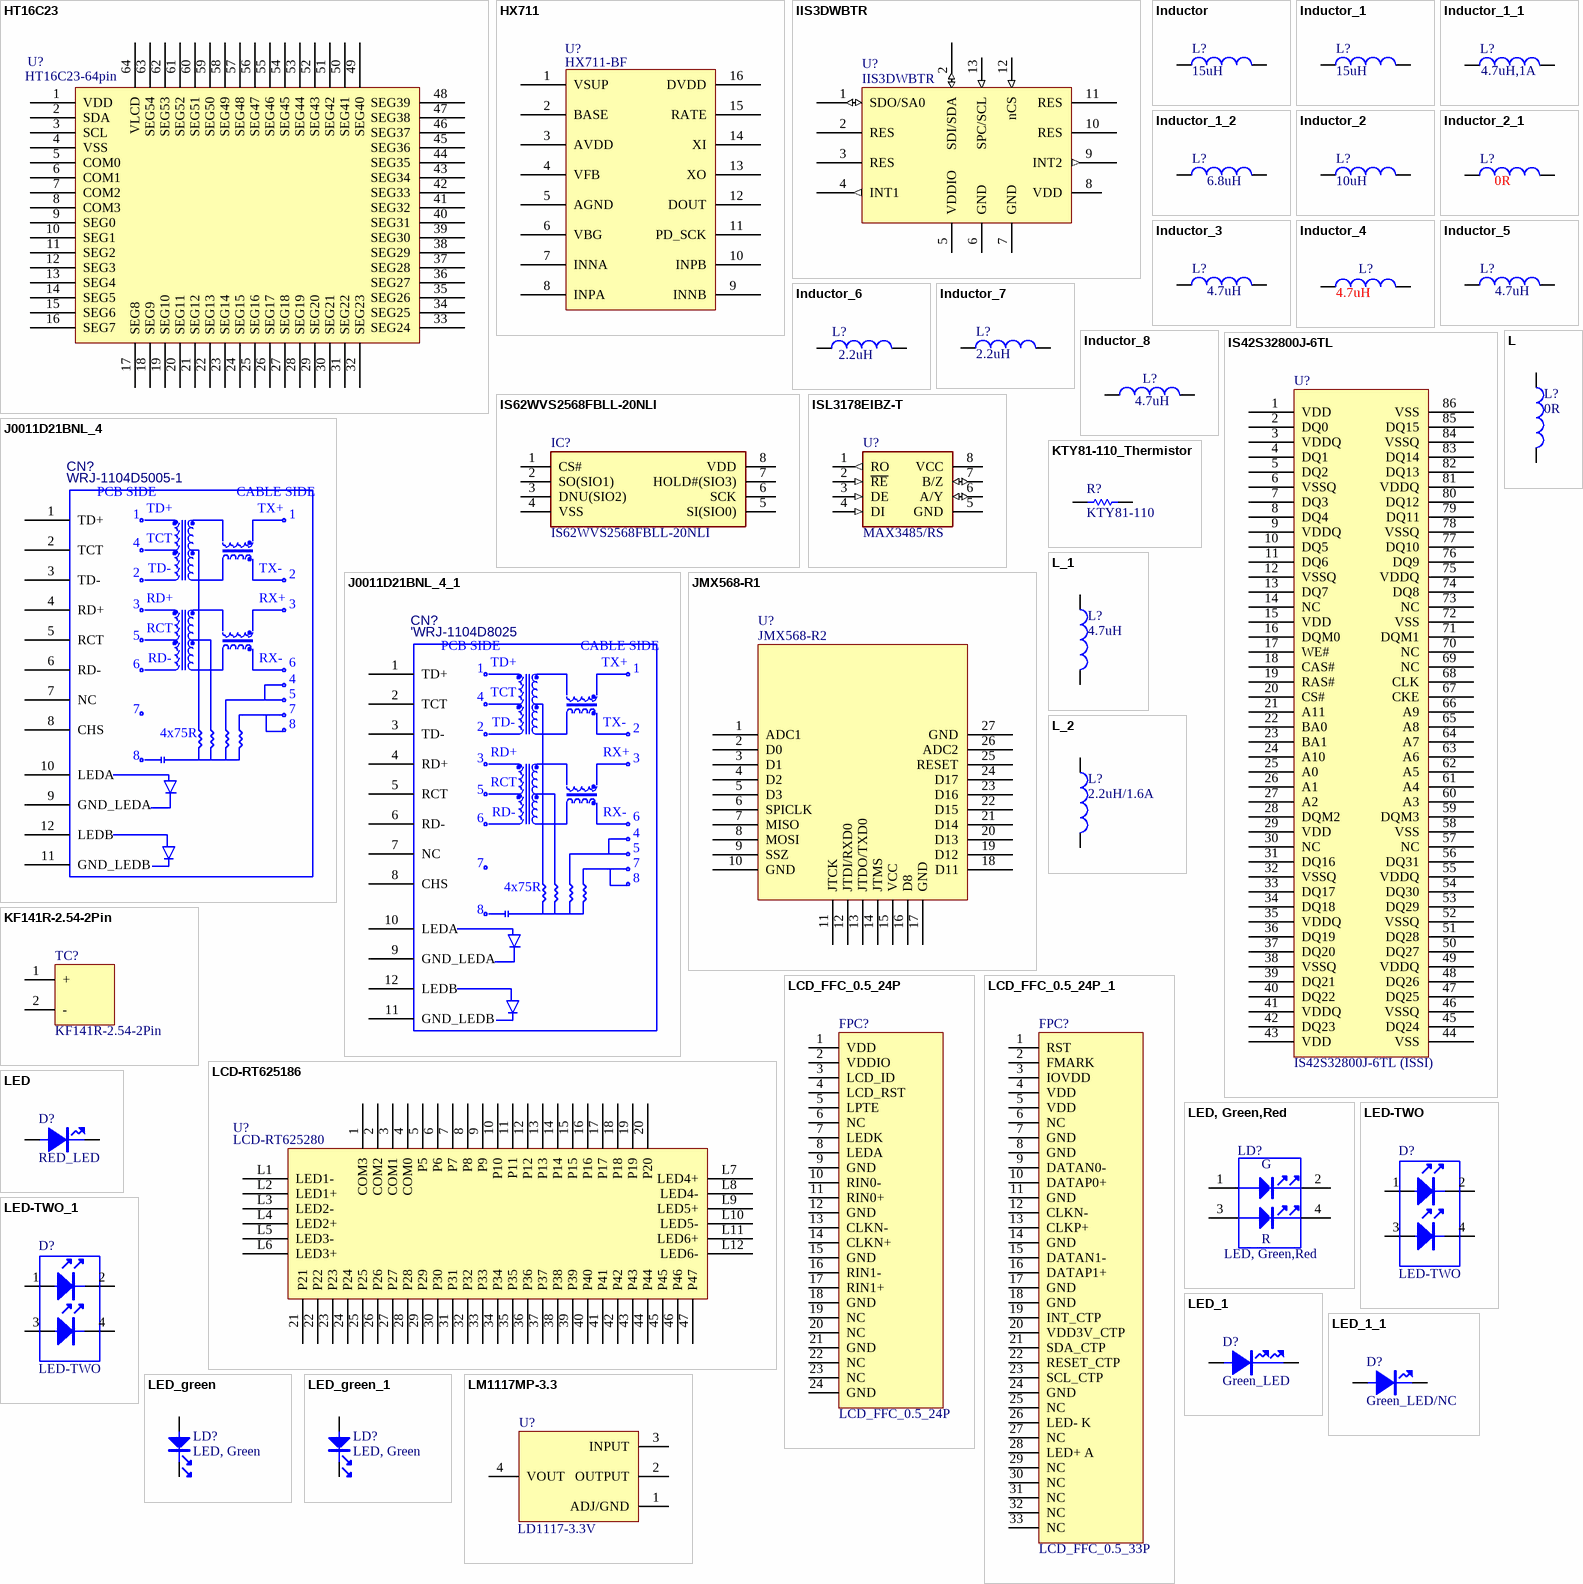
[diagram p3: symbols HT16C23 to LM1117MP-3.3]

## HT16C23
designator U?, comment HT16C23-64pin
LCD Driver Controller
footprint LQFP64-0.4mm-7X7-new
pins: 1 VDD, 2 SDA, 3 SCL, 4 VSS, 5 COM0, 6 COM1, 7 COM2, 8 COM3, 9 SEG0, 10 SEG1, 11 SEG2, 12 SEG3, 13 SEG4, 14 SEG5, 15 SEG6, 16 SEG7, 17 SEG8, 18 SEG9, 19 SEG10, 20 SEG11, 21 SEG12, 22 SEG13, 23 SEG14, 24 SEG15, 25 SEG16, 26 SEG17, 27 SEG18, 28 SEG19, 29 SEG20, 30 SEG21, 31 SEG22, 32 SEG23, 33 SEG24, 34 SEG25, 35 SEG26, 36 SEG27, 37 SEG28, 38 SEG29, 39 SEG30, 40 SEG31, 41 SEG32, 42 SEG33, 43 SEG34, 44 SEG35, 45 SEG36, 46 SEG37, 47 SEG38, 48 SEG39, 49 SEG40, 50 SEG41, 51 SEG42, 52 SEG43, 53 SEG44, 54 SEG45, 55 SEG46, 56 SEG47, 57 SEG48, 58 SEG49, 59 SEG50, 60 SEG51, 61 SEG52, 62 SEG53, 63 SEG54, 64 VLCD

## HX711
designator U?, comment HX711-BF
footprint SOP16-HX711
pins: 1 VSUP, 2 BASE, 3 AVDD, 4 VFB, 5 AGND, 6 VBG, 7 INNA, 8 INPA, 9 INNB, 10 INPB, 11 PD_SCK, 12 DOUT, 13 XO, 14 XI, 15 RATE, 16 DVDD

## IIS3DWBTR
designator U?
footprint PQFN50P250X300X86-14N
pins: 1 SDO/SA0 (io), 2 SDI/SDA (io), 2 RES, 3 RES, 4 INT1 (out), 5 VDDIO, 6 GND, 7 GND, 8 VDD, 9 INT2 (out), 10 RES, 11 RES, 12 nCS (in), 13 SPC/SCL (in)
2 alternate drawings of the same symbol

## Inductor
designator L?, comment 15uH
Inductor; Code_IEC: 1005; Published: 8-Jun-2000; LatestRevisionDate: 17-Jul-2002; LatestRevisionNote: Re-released for DXP Platform.; PackageReference: 0402-A; Publisher: Altium Limited; Code_JEITA: 0402; Value: 15uH
footprint 0402-A
footprint L0603
footprint 2012_Chip
footprint 2029
footprint L8.3x8.3
pins: 1, 2
2 alternate drawings of the same symbol

## Inductor_1
designator L?, comment 15uH
Inductor; Code_IEC: 1005; Published: 8-Jun-2000; LatestRevisionDate: 17-Jul-2002; LatestRevisionNote: Re-released for DXP Platform.; PackageReference: 0402-A; Publisher: Altium Limited; Code_JEITA: 0402; Value: 15uH
footprint 0402-A
footprint L0603
footprint 2012_Chip
footprint 2029
footprint L10.5X10.5-PAD-4MM
pins: 1, 2
2 alternate drawings of the same symbol

## Inductor_1_1
designator L?, comment 4.7uH,1A
Inductor; Code_IEC: 1005; Value: BEAD_PBY100505T-102Y-N; Published: 8-Jun-2000; LatestRevisionDate: 17-Jul-2002; LatestRevisionNote: Re-released for DXP Platform.; PackageReference: 0402-A; Publisher: Altium Limited; Code_JEITA: 0402
footprint 0402L
footprint L0603
footprint 2012_Chip
footprint 2029
footprint L3X3.5 -new
pins: 1, 2
2 alternate drawings of the same symbol

## Inductor_1_2
designator L?, comment 6.8uH
Inductor; Value: 6.8uH
footprint 0402-A
footprint L0603
footprint 2012_Chip
footprint 2029
footprint L3X3.5
pins: 1, 2
2 alternate drawings of the same symbol

## Inductor_2
designator L?, comment 10uH
Inductor; Code_IEC: 1005; Published: 8-Jun-2000; LatestRevisionDate: 17-Jul-2002; LatestRevisionNote: Re-released for DXP Platform.; PackageReference: 0402-A; Publisher: Altium Limited; Code_JEITA: 0402; Value: 10uH
footprint 0402-A
footprint L0603
footprint 2012_Chip
footprint 2029
footprint L3X3.5
pins: 1, 2
2 alternate drawings of the same symbol

## Inductor_2_1
designator L?, comment 0R
Inductor; Code_IEC: 1005; Published: 8-Jun-2000; LatestRevisionDate: 17-Jul-2002; LatestRevisionNote: Re-released for DXP Platform.; PackageReference: 0402-A; Publisher: Altium Limited; Code_JEITA: 0402; Value: 0R
footprint 0402L
footprint L0603
footprint 2012_Chip
footprint 2029
footprint 0603
pins: 1, 2
2 alternate drawings of the same symbol

## Inductor_3
designator L?, comment 4.7uH
Inductor; Code_IEC: 1005; Published: 8-Jun-2000; LatestRevisionDate: 17-Jul-2002; LatestRevisionNote: Re-released for DXP Platform.; PackageReference: 0402-A; Publisher: Altium Limited; Code_JEITA: 0402; Value: 4.7uH
footprint 0402-A
footprint L0603
footprint 2012_Chip
footprint 2029
footprint L3X3.5
pins: 1, 2
2 alternate drawings of the same symbol

## Inductor_4
designator L?, comment 4.7uH
Inductor; Code_IEC: 1005; Published: 8-Jun-2000; LatestRevisionDate: 17-Jul-2002; LatestRevisionNote: Re-released for DXP Platform.; PackageReference: 0402-A; Publisher: Altium Limited; Code_JEITA: 0402; Value: 4.7uH
footprint 0402-A
footprint L0603
footprint 2012_Chip
footprint 2029
footprint L7X6.6
pins: 1, 2
2 alternate drawings of the same symbol

## Inductor_5
designator L?, comment 4.7uH
Inductor; Value: 4.7uH
footprint 0402-A
footprint L0603
footprint 2012_Chip
footprint 2029
footprint L3X3.5
pins: 1, 2
2 alternate drawings of the same symbol

## Inductor_6
designator L?, comment 2.2uH
Inductor; Value: 2.2uH
footprint 0402-A
footprint L0603
footprint 2012_Chip
footprint 2029
footprint L3X3.5 -new
pins: 1, 2
2 alternate drawings of the same symbol

## Inductor_7
designator L?, comment 2.2uH
Inductor; Value: 2.2uH
footprint 0402-A
footprint L0603
footprint 2012_Chip
footprint 2029
footprint L3X3.5
pins: 1, 2
2 alternate drawings of the same symbol

## Inductor_8
designator L?, comment 4.7uH
Inductor; Code_IEC: 1005; Published: 8-Jun-2000; LatestRevisionDate: 17-Jul-2002; LatestRevisionNote: Re-released for DXP Platform.; PackageReference: 0402-A; Publisher: Altium Limited; Code_JEITA: 0402; Value: 4.7uH
footprint 0402-A
footprint L0603
footprint 2012_Chip
footprint 2029
footprint L7X6.6
pins: 1, 2
2 alternate drawings of the same symbol

## IS42S32800J-6TL
designator U?, comment IS42S32800J-6TL (ISSI)
SDRAM; Value: IS42S32800J-6TL (ISSI)
footprint TSOP86
pins: 1 VDD, 2 DQ0, 3 VDDQ, 4 DQ1, 5 DQ2, 6 VSSQ, 7 DQ3, 8 DQ4, 9 VDDQ, 10 DQ5, 11 DQ6, 12 VSSQ, 13 DQ7, 14 NC, 15 VDD, 16 DQM0, 17 WE#, 18 CAS#, 19 RAS#, 20 CS#, 21 A11, 22 BA0, 23 BA1, 24 A10, 25 A0, 26 A1, 27 A2, 28 DQM2, 29 VDD, 30 NC, 31 DQ16, 32 VSSQ, 33 DQ17, 34 DQ18, 35 VDDQ, 36 DQ19, 37 DQ20, 38 VSSQ, 39 DQ21, 40 DQ22, 41 VDDQ, 42 DQ23, 43 VDD, 44 VSS, 45 DQ24, 46 VSSQ, 47 DQ25, 48 DQ26, 49 VDDQ, 50 DQ27, 51 DQ28, 52 VSSQ, 53 DQ29, 54 DQ30, 55 VDDQ, 56 DQ31, 57 NC, 58 VSS, 59 DQM3, 60 A3, 61 A4, 62 A5, 63 A6, 64 A7, 65 A8, 66 A9, 67 CKE, 68 CLK, 69 NC, 70 NC, 71 DQM1, 72 VSS, 73 NC, 74 DQ8, 75 VDDQ, 76 DQ9, 77 DQ10, 78 VSSQ, 79 DQ11, 80 DQ12, 81 VDDQ, 82 DQ13, 83 DQ14, 84 VSSQ, 85 DQ15, 86 VSS

## IS62WVS2568FBLL-20NLI
designator IC?
Integrated Circuit; Manufacturer_Name: Integrated Silicon Solution Inc.; Datasheet Link: https://componentsearchengine.com//IS62WVS2568FBLL-20NLI.pdf; Height: 1.75mm; Mouser2 Part Number: 870-WVS2568FBLL20NLI; Mouser2 Price/Stock: https://www.mouser.com/Search/Refine.aspx?Keyword=870-WVS2568FBLL20NLI; Manufacturer_Part_Number: IS62WVS2568FBLL-20NLI
footprint SOIC127P600X175-8N
pins: 1 CS#, 2 SO(SIO1), 3 DNU(SIO2), 4 VSS, 5 SI(SIO0), 6 SCK, 7 HOLD#(SIO3), 8 VDD

## ISL3178EIBZ-T
designator U?, comment MAX3485/RS
Integrated Circuit; Manufacturer_Name: Renesas Electronics; Manufacturer_Part_Number: ISL3178EIBZ-T; Datasheet Link: https://www.renesas.com/en-us/www/doc/datasheet/isl3170e-71e-72e-73e-74e-75e-76e-77e-78e.pdf; Height: 1.75mm
footprint SOIC127P600X175-8N
pins: 1 RO (out), 2 ~{RE} (in), 3 DE (in), 4 DI (in), 5 GND, 6 A/Y (io), 7 B/Z (io), 8 VCC

## J0011D21BNL_4
designator CN?, comment WRJ-1104D5005-1
Right: 162; Bottom: 258
footprint WRJ45-Sheiding
pins: 1 TD+, 2 TCT, 3 TD-, 4 RD+, 5 RCT, 6 RD-, 7 NC, 8 CHS, 9 GND_LEDA, 10 LEDA, 11 GND_LEDB, 12 LEDB
2 alternate drawings of the same symbol
text: PCB SIDE; CABLE SIDE; TX+; TX-; RX+; RX-; 4x75R

## J0011D21BNL_4_1
designator CN?, comment 'WRJ-1104D8025
Right: 162; Bottom: 258
footprint WRJ45-Sheiding-ROUT
pins: 1 TD+, 2 TCT, 3 TD-, 4 RD+, 5 RCT, 6 RD-, 7 NC, 8 CHS, 9 GND_LEDA, 10 LEDA, 11 GND_LEDB, 12 LEDB
2 alternate drawings of the same symbol
text: PCB SIDE; CABLE SIDE; TX+; TX-; RX+; RX-; 4x75R

## JMX568-R1
designator U?, comment JMX568-R2
footprint JMX568-R2_27P
pins: 1 ADC1, 2 D0, 3 D1, 4 D2, 5 D3, 6 SPICLK, 7 MISO, 8 MOSI, 9 SSZ, 10 GND, 11 JTCK, 12 JTDI/RXD0, 13 JTDO/TXD0, 14 JTMS, 15 VCC, 16 D8, 17 GND, 18 D11, 19 D12, 20 D13, 21 D14, 22 D15, 23 D16, 24 D17, 25 RESET, 26 ADC2, 27 GND
2 alternate drawings of the same symbol

## KF141R-2.54-2Pin
designator TC?
footprint KF141R-2.54-2Pin
pins: 1 + "AL(-)", 2 - "CH(+)"

## KTY81-110_Thermistor
designator R?, comment KTY81-110
KTY81-110_Thermistor_TC_1kOhm at 25 deg
footprint KTY81/110
footprint DLR
pins: 1, 2

## L
designator L?, comment 0R
footprint 0805
footprint 1008
footprint DLR
footprint SMDL
footprint 0603
pins: 1, 2
2 alternate drawings of the same symbol

## L_1
designator L?, comment 4.7uH
footprint L3X3.5 -new
footprint 0805A
footprint DLR
footprint SMDL
footprint 0805
pins: 1, 2
2 alternate drawings of the same symbol

## L_2
designator L?, comment 2.2uH/1.6A
footprint L3X3.5
footprint 1008
footprint DLR
footprint SMDL
pins: 1, 2

## LCD-RT625186
designator U?, comment LCD-RT625280
footprint LCD-RT625280 Model-Last new
pins: 1 COM3, 2 COM2, 3 COM1, 4 COM0, 5 P5, 6 P6, 7 P7, 8 P8, 9 P9, 10 P10, 11 P11, 12 P12, 13 P13, 14 P14, 15 P15, 16 P16, 17 P17, 18 P18, 19 P19, 20 P20, 21 P21, 22 P22, 23 P23, 24 P24, 25 P25, 26 P26, 27 P27, 28 P28, 29 P29, 30 P30, 31 P31, 32 P32, 33 P33, 34 P34, 35 P35, 36 P36, 37 P37, 38 P38, 39 P39, 40 P40, 41 P41, 42 P42, 43 P43, 44 P44, 45 P45, 46 P46, 47 P47, L1 LED1-, L2 LED1+, L3 LED2-, L4 LED2+, L5 LED3-, L6 LED3+, L7 LED4+, L8 LED4-, L9 LED5+, L10 LED5-, L11 LED6+, L12 LED6-

## LCD_FFC_0.5_24P
designator FPC?
footprint FPC 0.5MM-24P-Down
pins: 1 VDD, 2 VDDIO, 3 LCD_ID, 4 LCD_RST, 5 LPTE, 6 NC, 7 LEDK, 8 LEDA, 9 GND, 10 RIN0-, 11 RIN0+, 12 GND, 13 CLKN-, 14 CLKN+, 15 GND, 16 RIN1-, 17 RIN1+, 18 GND, 19 NC, 20 NC, 21 GND, 22 NC, 23 NC, 24 GND

## LCD_FFC_0.5_24P_1
designator FPC?, comment LCD_FFC_0.5_33P
footprint FPC 0.5MM-33P-Down
pins: 1 RST, 2 FMARK, 3 IOVDD, 4 VDD, 5 VDD, 6 NC, 7 GND, 8 GND, 9 DATAN0-, 10 DATAP0+, 11 GND, 12 CLKN-, 13 CLKP+, 14 GND, 15 DATAN1-, 16 DATAP1+, 17 GND, 18 GND, 19 INT_CTP, 20 VDD3V_CTP, 21 SDA_CTP, 22 RESET_CTP, 23 SCL_CTP, 24 GND, 25 NC, 26 LED- K, 27 NC, 28 LED+ A, 29 NC, 30 NC, 31 NC, 32 NC, 33 NC

## LED
designator D?, comment RED_LED
Manufacturer's Part Number: CL-170G-CD-T; Part Number: 41100017000; Manufacturer: Citizen; Old Part Number: 4317000; Right: 40; Bottom: 20; Package Height: 1.1mm; FPLIST: mot/0805LED,dig/0805led; PCB_x: 46.095000; PCB_y: 6.420000; PCB_dir: 90.000000; VALUE_ALLEGRO: Red_LED; Cost: 0.48
footprint mot/0805led
footprint LED0603--0.4mm
pins: 1, 2
2 alternate drawings of the same symbol

## LED, Green,Red
designator LD?
Value: LED, Green,Red
footprint D0603
footprint LED0603
footprint LED-Side_1206-Dual
pins: 1, 2, 3, 4
2 alternate drawings of the same symbol
text: G; R

## LED-TWO
designator D?
footprint LED-TWO
footprint LEDX2HOLD
pins: 1, 2, 3, 4
2 alternate drawings of the same symbol

## LED-TWO_1
designator D?, comment LED-TWO
footprint LED-TWO
footprint LEDX2HOLD
pins: 1, 2, 3, 4
2 alternate drawings of the same symbol

## LED_1
designator D?, comment Green_LED
Manufacturer's Part Number: CL-170G-CD-T; Part Number: 41100017000; Manufacturer: Citizen; Old Part Number: 4317000; Right: 40; Bottom: 20; Package Height: 1.1mm; FPLIST: mot/0805LED,dig/0805led; PCB_x: 46.095000; PCB_y: 6.420000; PCB_dir: 90.000000; VALUE_ALLEGRO: Green_LED; Cost: 0.48
footprint mot/0805led
footprint LED5
footprint LED-DIP_3mm
footprint LED_DIP-3mm
pins: 1, 2
2 alternate drawings of the same symbol

## LED_1_1
designator D?, comment Green_LED/NC
Manufacturer's Part Number: CL-170G-CD-T; Part Number: 41100017000; Manufacturer: Citizen; Old Part Number: 4317000; Right: 40; Bottom: 20; VALUE_ALLEGRO: Red_LED; Package Height: 1.1mm; FPLIST: mot/0805LED,dig/0805led; PCB_x: 46.095000; PCB_y: 6.420000; PCB_dir: 90.000000; Cost: 0.48
footprint mot/0805led
footprint LED0603--0.4mm
pins: 1, 2
2 alternate drawings of the same symbol

## LED_green
designator LD?, comment LED, Green
LED, Green, 0603; Value: LED, Green
footprint D0603
footprint LED0603
footprint LED-Side_1206-Single
pins: 1, 2
2 alternate drawings of the same symbol

## LED_green_1
designator LD?, comment LED, Green
LED, Green, 0603; Value: LED, Green
footprint D0603
footprint LED0603
pins: 1, 2
2 alternate drawings of the same symbol

## LM1117MP-3.3
designator U?, comment LD1117-3.3V
footprint SOT-223-4
pins: 1 ADJ/GND, 2 OUTPUT, 3 INPUT, 4 VOUT

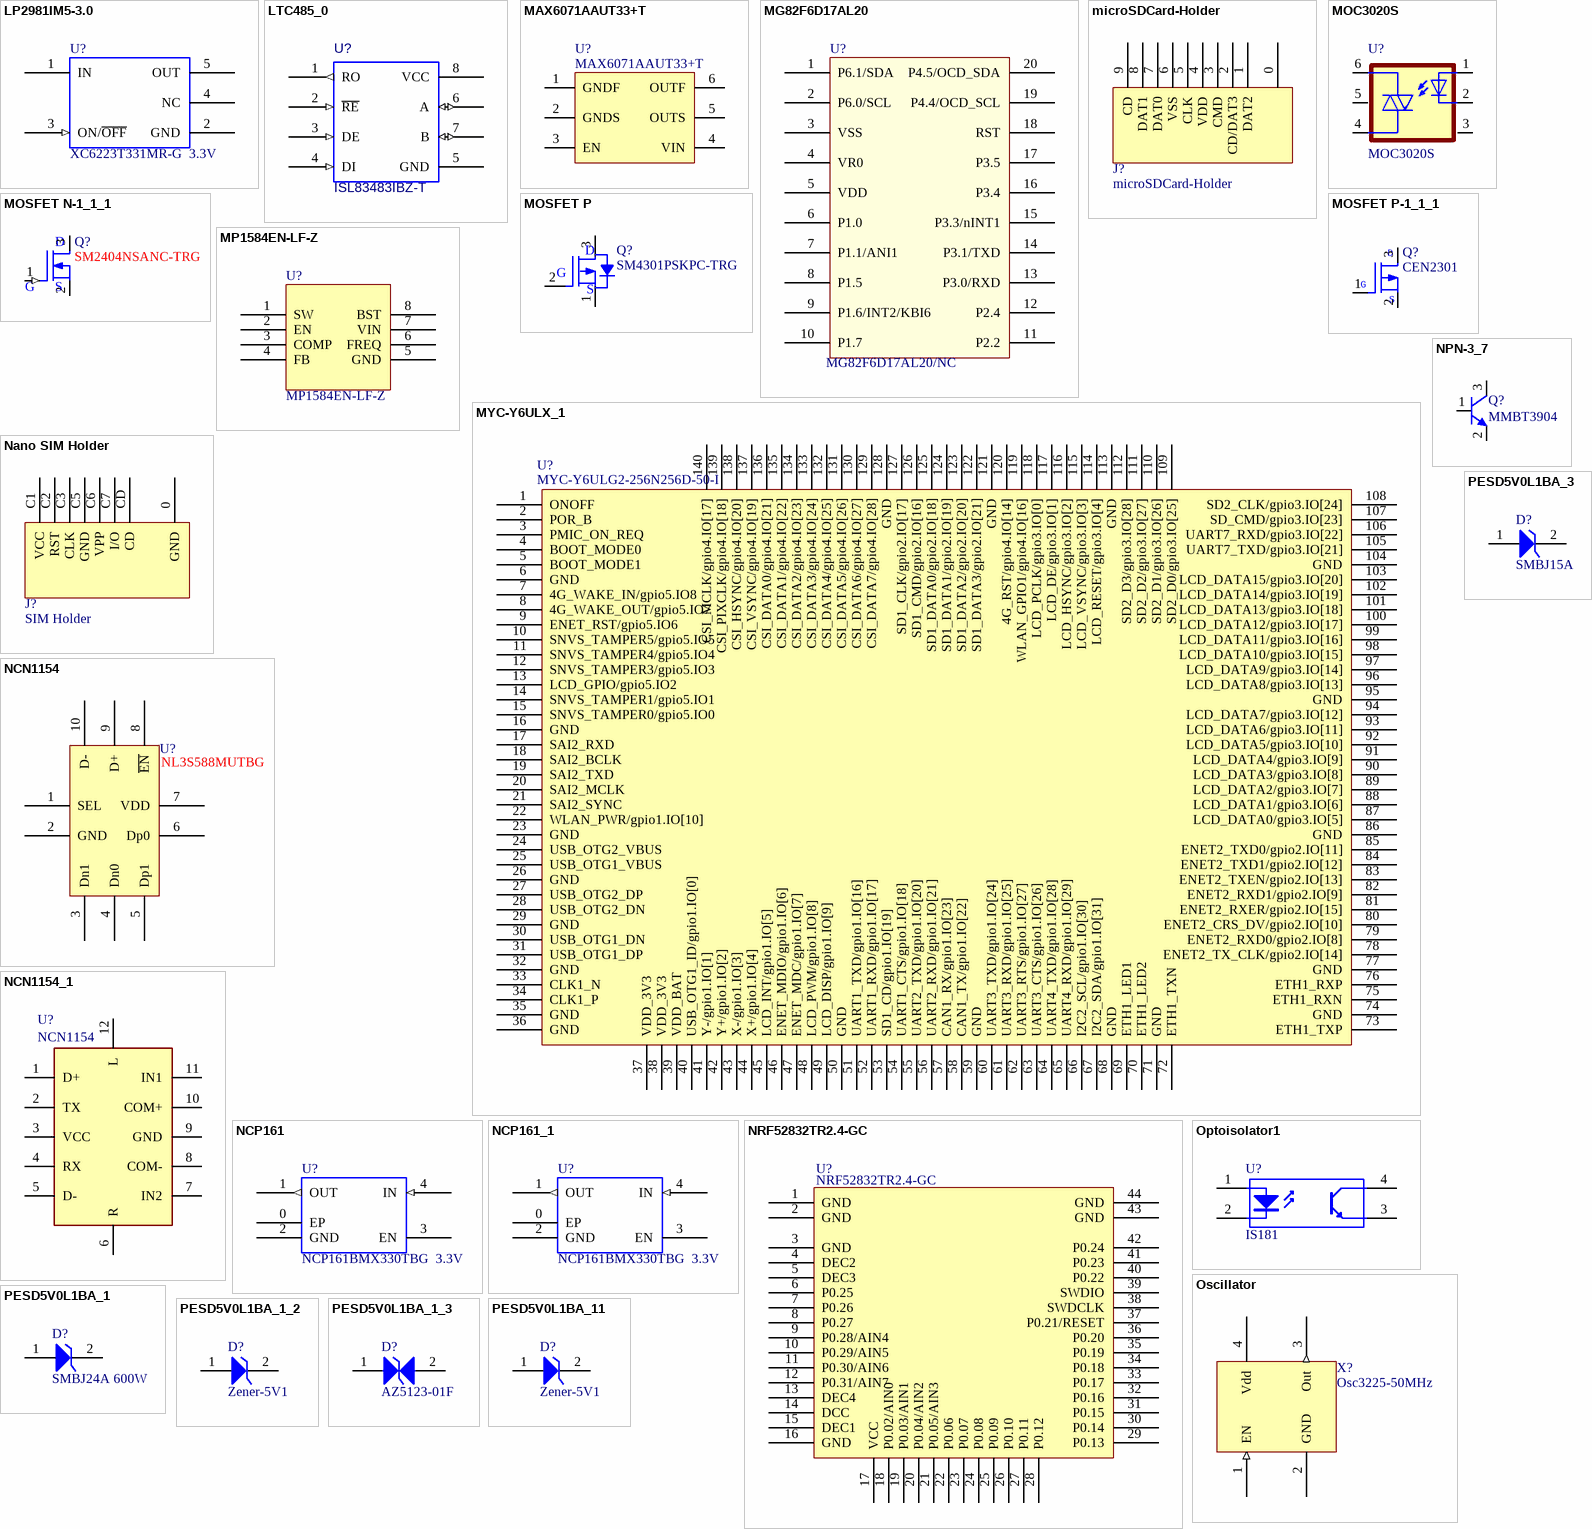
[diagram p4: symbols LP2981IM5-3.0 to PESD5V0L1BA_11]

## LP2981IM5-3.0
designator U?, comment XC6223T331MR-G  3.3V
Part Number: 34000298109; Right: 80; Bottom: 60; PCB_loc: Top; PCB_dir: 270.000000; PCB_y: 12.938000; PCB_x: 16.192500; VALUE_ALLEGRO: GS2813L33F  3.3V; Package Height: 1.22mm; Rating: -40 to +125蚓; FPLIST: mot/sot23-5,dig/sot23-5
footprint sot23-5
footprint SOT-23-5-0.95MM
pins: 1 IN, 2 GND, 3 ON/~{OFF} (in), 4 NC, 5 OUT
2 alternate drawings of the same symbol

## LTC485_0
designator U?, comment ISL83483IBZ-T
Right: 70; Bottom: 80
footprint SOIC
footprint SOP8
pins: 1 RO (out), 2 ~{RE} (in), 3 DE (in), 4 DI (in), 5 GND (power), 6 A (io), 7 B (io), 8 VCC (power)
2 alternate drawings of the same symbol

## MAX6071AAUT33+T
designator U?
footprint SOT-23-6-0.95MM-1
pins: 1 GNDF, 2 GNDS, 3 EN, 4 VIN, 5 OUTS, 6 OUTF

## MG82F6D17AL20
designator U?, comment MG82F6D17AL20/NC
SSOP20
footprint SSOP20(150mil)
pins: 1 P6.1/SDA, 2 P6.0/SCL, 3 VSS, 4 VR0, 5 VDD, 6 P1.0, 7 P1.1/ANI1, 8 P1.5, 9 P1.6/INT2/KBI6, 10 P1.7, 11 P2.2, 12 P2.4, 13 P3.0/RXD, 14 P3.1/TXD, 15 P3.3/nINT1, 16 P3.4, 17 P3.5, 18 RST, 19 P4.4/OCD_SCL, 20 P4.5/OCD_SDA

## microSDCard-Holder
designator J?
footprint MIRCO-SD Holder
pins: 0, 1 DAT2, 2 CD/DAT3, 3 CMD, 4 VDD, 5 CLK, 6 VSS, 7 DAT0, 8 DAT1, 9 CD

## MOC3020S
designator U?
Optoisolator Triac Output 5300Vrms 1 Channel; MF: ON Semiconductor; SnapEDA_Link: https://www.snapeda.com/parts/MOC3020/ON%20Semiconductor/view-part/2780094/?ref=snap; MP: MOC3020; Availability: Unavailable; Price: None; Value: MOC3020S; Package: SMD-6 ON Semiconductor
footprint OPTOCOUPLER_H11F3SR2M
pins: 1 A, 2 C, 3 P$1 (oc), 4 A1, 5 P$2 (oc), 6 A2

## MOSFET N-1_1_1
designator Q?, comment SM2404NSANC-TRG
N-Channel Mosfet; Value: SM1906NSQG
footprint SOT-23
pins: 1 GATE (in), 2 SOURCE, 3 DRAIN
2 alternate drawings of the same symbol
text: D; G; S

## MOSFET P
designator Q?, comment SM4301PSKPC-TRG
P-Channel Mosfet; Value: SM4301PSKPC-TRG
footprint DFN5*6-SM4301PSKPC-TRG
pins: 1 SOURCE, 2 GATE, 3 DRAIN
2 alternate drawings of the same symbol
text: D; G; S

## MOSFET P-1_1_1
designator Q?, comment CEN2301
P MOSFET; Value: CEN2301
footprint SOT-23
pins: 1 GATE, 2 SOURCE, 3 DRAIN
2 alternate drawings of the same symbol
text: D; G; S

## MP1584EN-LF-Z
designator U?
footprint SOP8
footprint SOIC8E_MP1584EN
pins: 1 SW, 2 EN, 3 COMP, 4 FB, 5 GND, 6 FREQ, 7 VIN, 8 BST
2 alternate drawings of the same symbol

## MYC-Y6ULX_1
designator U?, comment MYC-Y6ULG2-256N256D-50-I
footprint MYD-Y6ULX 140pin
pins: 1 ONOFF, 2 POR_B, 3 PMIC_ON_REQ, 4 BOOT_MODE0, 5 BOOT_MODE1, 6 GND, 7 4G_WAKE_IN/gpio5.IO8, 8 4G_WAKE_OUT/gpio5.IO7, 9 ENET_RST/gpio5.IO6, 10 SNVS_TAMPER5/gpio5.IO5, 11 SNVS_TAMPER4/gpio5.IO4, 12 SNVS_TAMPER3/gpio5.IO3, 13 LCD_GPIO/gpio5.IO2, 14 SNVS_TAMPER1/gpio5.IO1, 15 SNVS_TAMPER0/gpio5.IO0, 16 GND, 17 SAI2_RXD, 18 SAI2_BCLK, 19 SAI2_TXD, 20 SAI2_MCLK, 21 SAI2_SYNC, 22 WLAN_PWR/gpio1.IO[10], 23 GND, 24 USB_OTG2_VBUS, 25 USB_OTG1_VBUS, 26 GND, 27 USB_OTG2_DP, 28 USB_OTG2_DN, 29 GND, 30 USB_OTG1_DN, 31 USB_OTG1_DP, 32 GND, 33 CLK1_N, 34 CLK1_P, 35 GND, 36 GND, 37 VDD_3V3, 38 VDD_3V3, 39 VDD_BAT, 40 USB_OTG1_ID/gpio1.IO[0], 41 Y-/gpio1.IO[1], 42 Y+/gpio1.IO[2], 43 X-/gpio1.IO[3], 44 X+/gpio1.IO[4], 45 LCD_INT/gpio1.IO[5], 46 ENET_MDIO/gpio1.IO[6], 47 ENET_MDC/gpio1.IO[7], 48 LCD_PWM/gpio1.IO[8], 49 LCD_DISP/gpio1.IO[9], 50 GND, 51 UART1_TXD/gpio1.IO[16], 52 UART1_RXD/gpio1.IO[17], 53 SD1_CD/gpio1.IO[19], 54 UART1_CTS/gpio1.IO[18], 55 UART2_TXD/gpio1.IO[20], 56 UART2_RXD/gpio1.IO[21], 57 CAN1_RX/gpio1.IO[23], 58 CAN1_TX/gpio1.IO[22], 59 GND, 60 UART3_TXD/gpio1.IO[24], 61 UART3_RXD/gpio1.IO[25], 62 UART3_RTS/gpio1.IO[27], 63 UART3_CTS/gpio1.IO[26], 64 UART4_TXD/gpio1.IO[28], 65 UART4_RXD/gpio1.IO[29], 66 I2C2_SCL/gpio1.IO[30], 67 I2C2_SDA/gpio1.IO[31], 68 GND, 69 ETH1_LED1, 70 ETH1_LED2, 71 GND, 72 ETH1_TXN, 73 ETH1_TXP, 74 GND, 75 ETH1_RXN, 76 ETH1_RXP, 77 GND, 78 ENET2_TX_CLK/gpio2.IO[14], 79 ENET2_RXD0/gpio2.IO[8], 80 ENET2_CRS_DV/gpio2.IO[10], 81 ENET2_RXER/gpio2.IO[15], 82 ENET2_RXD1/gpio2.IO[9], 83 ENET2_TXEN/gpio2.IO[13], 84 ENET2_TXD1/gpio2.IO[12], 85 ENET2_TXD0/gpio2.IO[11], 86 GND, 87 LCD_DATA0/gpio3.IO[5], 88 LCD_DATA1/gpio3.IO[6], 89 LCD_DATA2/gpio3.IO[7], 90 LCD_DATA3/gpio3.IO[8], 91 LCD_DATA4/gpio3.IO[9], 92 LCD_DATA5/gpio3.IO[10], 93 LCD_DATA6/gpio3.IO[11], 94 LCD_DATA7/gpio3.IO[12], 95 GND, 96 LCD_DATA8/gpio3.IO[13], 97 LCD_DATA9/gpio3.IO[14], 98 LCD_DATA10/gpio3.IO[15], 99 LCD_DATA11/gpio3.IO[16], 100 LCD_DATA12/gpio3.IO[17], 101 LCD_DATA13/gpio3.IO[18], 102 LCD_DATA14/gpio3.IO[19], 103 LCD_DATA15/gpio3.IO[20], 104 GND, 105 UART7_TXD/gpio3.IO[21], 106 UART7_RXD/gpio3.IO[22], 107 SD_CMD/gpio3.IO[23], 108 SD2_CLK/gpio3.IO[24], 109 SD2_D0/gpio3.IO[25], 110 SD2_D1/gpio3.IO[26], 111 SD2_D2/gpio3.IO[27], 112 SD2_D3/gpio3.IO[28], 113 GND, 114 LCD_RESET/gpio3.IO[4], 115 LCD_VSYNC/gpio3.IO[3], 116 LCD_HSYNC/gpio3.IO[2], 117 LCD_DE/gpio3.IO[1], 118 LCD_PCLK/gpio3.IO[0], 119 WLAN_GPIO1/gpio4.IO[16], 120 4G_RST/gpio4.IO[14], 121 GND, 122 SD1_DATA3/gpio2.IO[21], 123 SD1_DATA2/gpio2.IO[20], 124 SD1_DATA1/gpio2.IO[19], 125 SD1_DATA0/gpio2.IO[18], 126 SD1_CMD/gpio2.IO[16], 127 SD1_CLK/gpio2.IO[17], 128 GND, 129 CSI_DATA7/gpio4.IO[28], 130 CSI_DATA6/gpio4.IO[27], 131 CSI_DATA5/gpio4.IO[26], 132 CSI_DATA4/gpio4.IO[25], 133 CSI_DATA3/gpio4.IO[24], 134 CSI_DATA2/gpio4.IO[23], 135 CSI_DATA1/gpio4.IO[22], 136 CSI_DATA0/gpio4.IO[21], 137 CSI_VSYNC/gpio4.IO[19], 138 CSI_HSYNC/gpio4.IO[20], 139 CSI_PIXCLK/gpio4.IO[18], 140 CSI_MCLK/gpio4.IO[17]

## Nano SIM Holder
designator J?, comment SIM Holder
footprint TR+Nano SIM Holder
pins: 0 GND, C1 VCC, C2 RST, C3 CLK, C5 GND, C6 VPP, C7 I/O, CD

## NCN1154
designator U?, comment NL3S588MUTBG
USB Signal Switch; Value: NL3S588MUTBG
footprint UQFN10 1.4x1.8, 0.4P
pins: 1 SEL, 2 GND, 3 Dn1, 4 Dn0, 5 Dp1, 6 Dp0, 7 VDD, 8 ~{EN}, 9 D+, 10 D-

## NCN1154_1
designator U?, comment NCN1154
MP: TXB0104RUTR; MF: Texas Instruments; Digi-Key_Part_Number: 296-25888-1-ND; SnapEDA_Link: https://www.snapeda.com/parts/TXB0104RUTR/Texas%20Instruments/view-part/44415/?ref=snap; Package: UQFN-12 Texas Instruments; Value: *; Digi-Key_Purchase_URL: https://www.digikey.com/product-detail/en/texas-instruments/TXB0104RUTR/296-25888-1-ND/2242752?utm_source=snapeda&utm_medium=aggregator&utm_campaign=symbol
footprint IC_TXB0104RUTR
pins: 1 D+ (power), 2 TX (power), 3 VCC (power), 4 RX (power), 5 D- (power), 6 R (power), 7 IN2 (power), 8 COM- (power), 9 GND (power), 10 COM+ (power), 11 IN1 (power), 12 L (power)

## NCP161
designator U?, comment NCP161BMX330TBG  3.3V
Part Number: 34000298109; Right: 80; Bottom: 60; PCB_loc: Top; PCB_dir: 270.000000; PCB_y: 12.938000; PCB_x: 16.192500; VALUE_ALLEGRO: GS2813L33F  3.3V; Package Height: 1.22mm; Rating: -40 to +125蚓; FPLIST: mot/sot23-5,dig/sot23-5
footprint sot23-5
footprint VREG_NCP170AMX135TCG
pins: 0 EP, 1 OUT (out), 2 GND (power), 3 EN, 4 IN (in)
2 alternate drawings of the same symbol

## NCP161_1
designator U?, comment NCP161BMX330TBG  3.3V
Part Number: 34000298109; Right: 80; Bottom: 60; PCB_loc: Top; PCB_dir: 270.000000; PCB_y: 12.938000; PCB_x: 16.192500; Package Height: 1.22mm; Rating: -40 to +125蚓; FPLIST: mot/sot23-5,dig/sot23-5; Value: NCP161BMX330TBG  3.3V
footprint sot23-5
footprint XDFN4-NCP161
pins: 0 EP, 1 OUT (out), 2 GND (power), 3 EN, 4 IN (in)
2 alternate drawings of the same symbol

## NPN-3_7
designator Q?, comment MMBT3904
NPN General Purpose Amplifier; Value: MMBT3904
footprint TO-92A
footprint SOT-23
pins: 1 B, 2 E, 3 C
2 alternate drawings of the same symbol

## NRF52832TR2.4-GC
designator U?
footprint NRF52832TR2.4-GC
pins: 1 GND, 2 GND, 3 GND, 4 DEC2, 5 DEC3, 6 P0.25, 7 P0.26, 8 P0.27, 9 P0.28/AIN4, 10 P0.29/AIN5, 11 P0.30/AIN6, 12 P0.31/AIN7, 13 DEC4, 14 DCC, 15 DEC1, 16 GND, 17 VCC, 18 P0.02/AIN0, 19 P0.03/AIN1, 20 P0.04/AIN2, 21 P0.05/AIN3, 22 P0.06, 23 P0.07, 24 P0.08, 25 P0.09, 26 P0.10, 27 P0.11, 28 P0.12, 29 P0.13, 30 P0.14, 31 P0.15, 32 P0.16, 33 P0.17, 34 P0.18, 35 P0.19, 36 P0.20, 37 P0.21/RESET, 38 SWDCLK, 39 SWDIO, 40 P0.22, 41 P0.23, 42 P0.24, 43 GND, 44 GND

## Optoisolator1
designator U?, comment IS181
4-Pin Phototransistor Optocoupler; Published: 24-Mar-1999; LatestRevisionDate: 04-Mar-2005; LatestRevisionNote: Sch pins 3 & 4 Swapped.; DatasheetDocument: Nov-2003; PackageReference: DIP-4; Publisher: Altium Limited
footprint DIP-4
footprint DIP-IC4
footprint IS181-SMD
pins: 1, 2, 3, 4
2 alternate drawings of the same symbol

## Oscillator
designator X?, comment Osc3225-50MHz
footprint Osc-SMD-3.2X2.5--
pins: 1 EN (in), 2 GND (power), 3 Out (out), 4 Vdd (power)

## PESD5V0L1BA_1
designator D?, comment SMBJ24A 600W
Zener Diode
footprint SMBJ40CA(TVS)
pins: 1, 2

## PESD5V0L1BA_1_2
designator D?, comment Zener-5V1
Zener Diode; Value: Zener-5V1
footprint LL34-Zener
pins: 1, 2

## PESD5V0L1BA_1_3
designator D?, comment AZ5123-01F
ESD; Value: AZ5123-01F
footprint SMBJ40CA(TVS)
footprint DIODE-0402
pins: 1, 2

## PESD5V0L1BA_3
designator D?, comment SMBJ15A
Zener Diode
footprint SMBJ40CA(TVS)
pins: 1, 2

## PESD5V0L1BA_11
designator D?, comment Zener-5V1
Zener Diode; Value: Zener-5V1
footprint LL34-Zener
pins: 1, 2

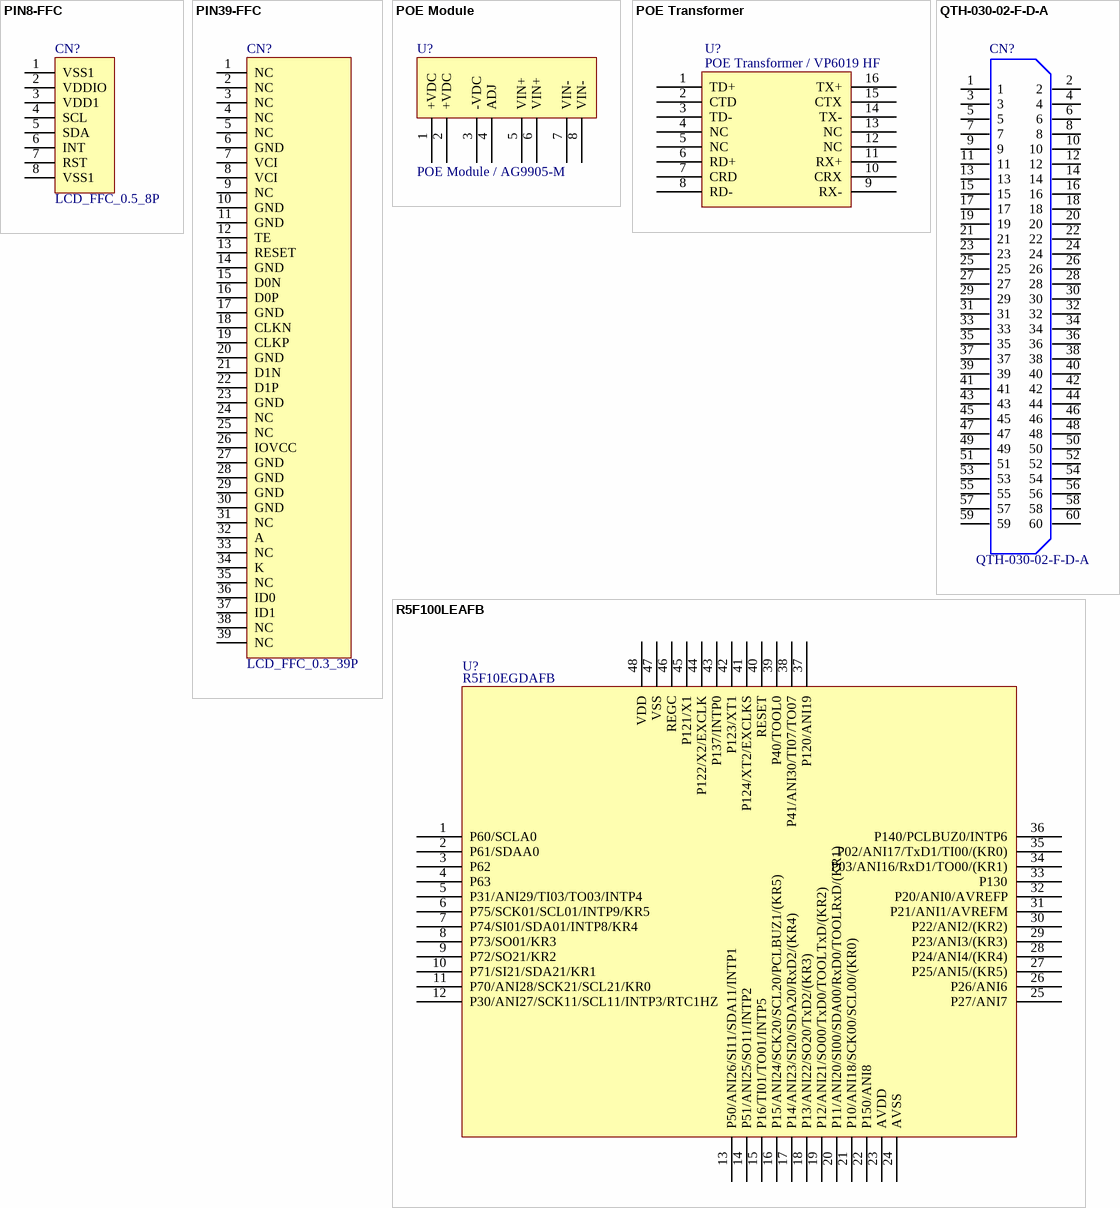
[diagram p5: symbols PIN8-FFC to R5F100LEAFB]

## PIN8-FFC
designator CN?, comment LCD_FFC_0.5_8P
footprint FPC 0.5MM-8P-UP
pins: 1 VSS1, 2 VDDIO, 3 VDD1, 4 SCL, 5 SDA, 6 INT, 7 RST, 8 VSS1

## PIN39-FFC
designator CN?, comment LCD_FFC_0.3_39P
footprint FPC 0.3MM-39pin
pins: 1 NC, 2 NC, 3 NC, 4 NC, 5 NC, 6 GND, 7 VCI, 8 VCI, 9 NC, 10 GND, 11 GND, 12 TE, 13 RESET, 14 GND, 15 D0N, 16 D0P, 17 GND, 18 CLKN, 19 CLKP, 20 GND, 21 D1N, 22 D1P, 23 GND, 24 NC, 25 NC, 26 IOVCC, 27 GND, 28 GND, 29 GND, 30 GND, 31 NC, 32 A, 33 NC, 34 K, 35 NC, 36 ID0, 37 ID1, 38 NC, 39 NC

## POE Module
designator U?, comment POE Module / AG9905-M
footprint 8pin-POE Module SMD
pins: 1 +VDC, 2 +VDC, 3 -VDC, 4 ADJ, 5 VIN+, 6 VIN+, 7 VIN-, 8 VIN-

## POE Transformer
designator U?, comment POE Transformer / VP6019 HF
footprint SOP16-POE Transformer
pins: 1 TD+, 2 CTD, 3 TD-, 4 NC, 5 NC, 6 RD+, 7 CRD, 8 RD-, 9 RX-, 10 CRX, 11 RX+, 12 NC, 13 NC, 14 TX-, 15 CTX, 16 TX+

## QTH-030-02-F-D-A
designator CN?
HIGH SPEED TERMINAL STRIP, .5mm PITCH, 60 PINS.; Value: QTH-030-02-F-D-A
footprint QTH-030-02-F-D-A
pins: 1, 2, 3, 4, 5, 6, 7, 8, 9, 10, 11, 12, 13, 14, 15, 16, 17, 18, 19, 20, 21, 22, 23, 24, 25, 26, 27, 28, 29, 30, 31, 32, 33, 34, 35, 36, 37, 38, 39, 40, 41, 42, 43, 44, 45, 46, 47, 48, 49, 50, 51, 52, 53, 54, 55, 56, 57, 58, 59, 60